# Altium integrated library Xilinx Virtex-E.IntLib: 288 symbols (part 6 of 73)
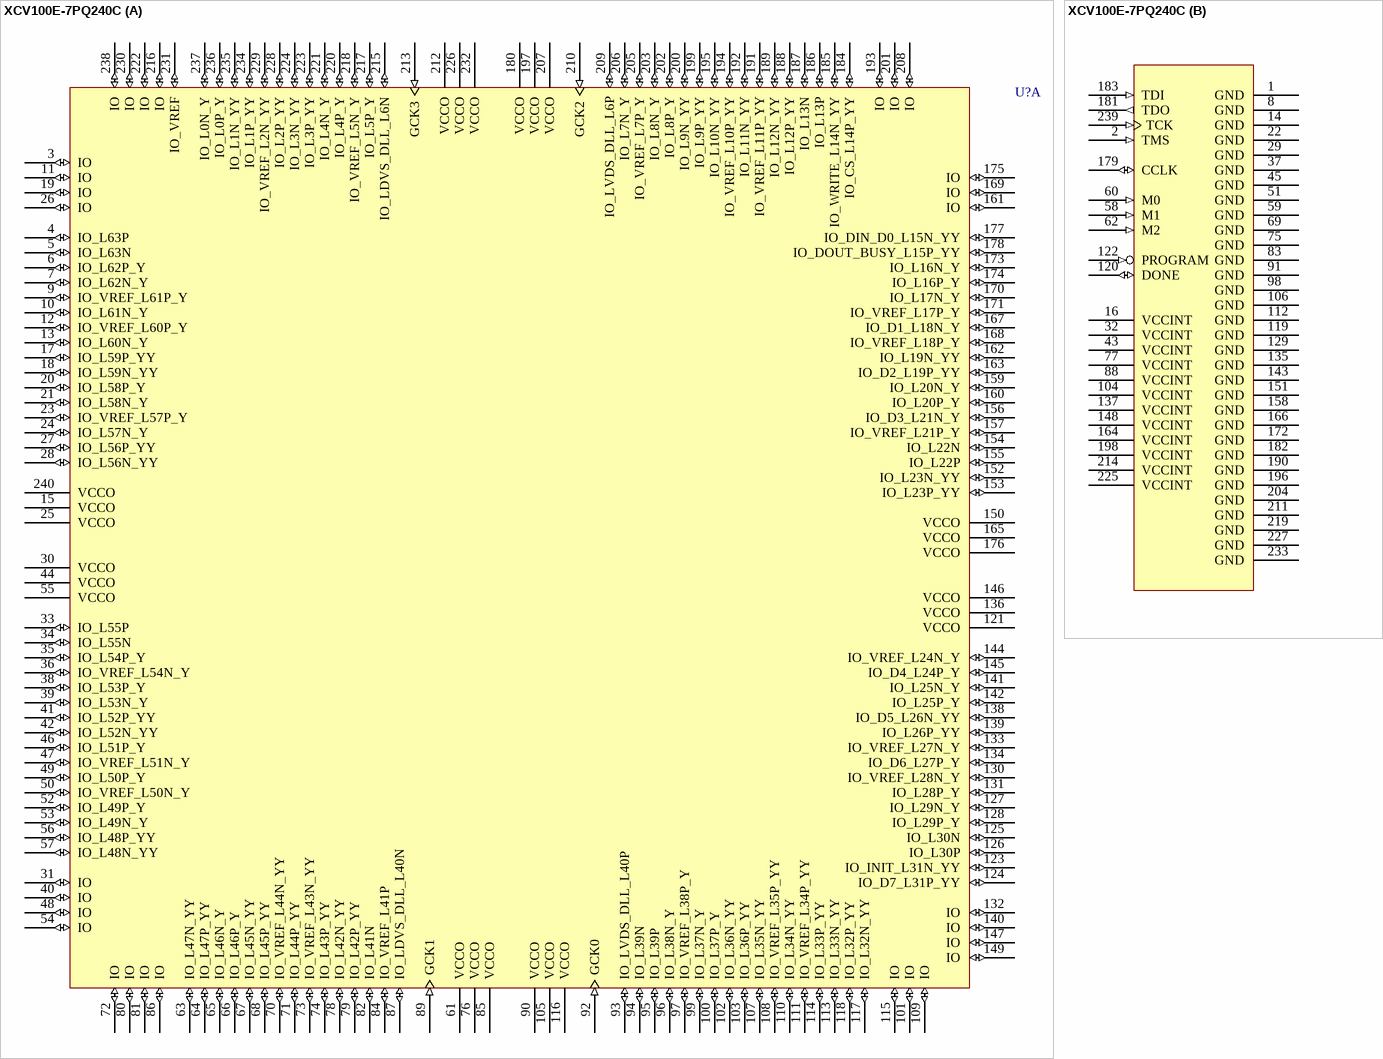
[diagram p402: symbol XCV100E-7PQ240C]

## XCV100E-7PQ240C
designator U?
Virtex-E 1.8V FPGA, 240-Pin PQFP, Commercial Grade; PackageDocument: ver1.1, Oct-2002; Published: 19-Sep-2001; LatestRevisionDate: 17-Jul-2002; LatestRevisionNote: Re-released for DXP Platform.; DatasheetDocument: Mar-2003; PackageReference: PQ240; Publisher: Altium Limited; Code_JEDEC: MO-143-GA
footprint PQ240 (240-Pin Plastic Quad Flat Pack (PQ240))
3D model XCV100E-PQ240 (240-Pin Plastic Quad Flat Pack (PQ240))
signal-integrity model XCV100E_PQ240 (Virtex-E)
part A pins: 3 IO (io), 4 IO_L63P (io), 5 IO_L63N (io), 6 IO_L62P_Y (io), 7 IO_L62N_Y (io), 9 IO_VREF_L61P_Y (io), 10 IO_L61N_Y (io), 11 IO (io), 12 IO_VREF_L60P_Y (io), 13 IO_L60N_Y (io), 15 VCCO (power), 17 IO_L59P_YY (io), 18 IO_L59N_YY (io), 19 IO (io), 20 IO_L58P_Y (io), 21 IO_L58N_Y (io), 23 IO_VREF_L57P_Y (io), 24 IO_L57N_Y (io), 25 VCCO (power), 26 IO (io), 27 IO_L56P_YY (io), 28 IO_L56N_YY (io), 30 VCCO (power), 31 IO (io), 33 IO_L55P (io), 34 IO_L55N (io), 35 IO_L54P_Y (io), 36 IO_VREF_L54N_Y (io), 38 IO_L53P_Y (io), 39 IO_L53N_Y (io), 40 IO (io), 41 IO_L52P_YY (io), 42 IO_L52N_YY (io), 44 VCCO (power), 46 IO_L51P_Y (io), 47 IO_VREF_L51N_Y (io), 48 IO (io), 49 IO_L50P_Y (io), 50 IO_VREF_L50N_Y (io), 52 IO_L49P_Y (io), 53 IO_L49N_Y (io), 54 IO (io), 55 VCCO (power), 56 IO_L48P_YY (io), 57 IO_L48N_YY (io), 61 VCCO (power), 63 IO_L47N_YY (io), 64 IO_L47P_YY (io), 65 IO_L46N_Y (io), 66 IO_L46P_Y (io), 67 IO_L45N_YY (io), 68 IO_L45P_YY (io), 70 IO_VREF_L44N_YY (io), 71 IO_L44P_YY (io), 72 IO (io), 73 IO_VREF_L43N_YY (io), 74 IO_L43P_YY (io), 76 VCCO (power), 78 IO_L42N_YY (io), 79 IO_L42P_YY (io), 80 IO (io), 81 IO (io), 82 IO_L41N (io), 84 IO_VREF_L41P (io), 85 VCCO (power), 86 IO (io), 87 IO_LDVS_DLL_L40N (io), 89 GCK1 (in), 90 VCCO (power), 92 GCK0 (in), 93 IO_LVDS_DLL_L40P (io), 94 IO_L39N (io), 95 IO_L39P (io), 96 IO_L38N_Y (io), 97 IO_VREF_L38P_Y (io), 99 IO_L37N_Y (io), 100 IO_L37P_Y (io), 101 IO (io), 102 IO_L36N_YY (io), 103 IO_L36P_YY (io), 105 VCCO (power), 107 IO_L35N_YY (io), 108 IO_VREF_L35P_YY (io), 109 IO (io), 110 IO_L34N_YY (io), 111 IO_VREF_L34P_YY (io), 113 IO_L33N_YY (io), 114 IO_L33P_YY (io), 115 IO (io), 116 VCCO (power), 117 IO_L32N_YY (io), 118 IO_L32P_YY (io), 121 VCCO (power), 123 IO_INIT_L31N_YY (io), 124 IO_D7_L31P_YY (io), 125 IO_L30N (io), 126 IO_L30P (io), 127 IO_L29N_Y (io), 128 IO_L29P_Y (io), 130 IO_VREF_L28N_Y (io), 131 IO_L28P_Y (io), 132 IO (io), 133 IO_VREF_L27N_Y (io), 134 IO_D6_L27P_Y (io), 136 VCCO (power), 138 IO_D5_L26N_YY (io), 139 IO_L26P_YY (io), 140 IO (io), 141 IO_L25N_Y (io), 142 IO_L25P_Y (io), 144 IO_VREF_L24N_Y (io), 145 IO_D4_L24P_Y (io), 146 VCCO (power), 147 IO (io), 149 IO (io), 150 VCCO (power), 152 IO_L23N_YY (io), 153 IO_L23P_YY (io), 154 IO_L22N (io), 155 IO_L22P (io), 156 IO_D3_L21N_Y (io), 157 IO_VREF_L21P_Y (io), 159 IO_L20N_Y (io), 160 IO_L20P_Y (io), 161 IO (io), 162 IO_L19N_YY (io), 163 IO_D2_L19P_YY (io), 165 VCCO (power), 167 IO_D1_L18N_Y (io), 168 IO_VREF_L18P_Y (io), 169 IO (io), 170 IO_L17N_Y (io), 171 IO_VREF_L17P_Y (io), 173 IO_L16N_Y (io), 174 IO_L16P_Y (io), 175 IO (io), 176 VCCO (power), 177 IO_DIN_D0_L15N_YY (io), 178 IO_DOUT_BUSY_L15P_YY (io), 180 VCCO (power), 184 IO_CS_L14P_YY (io), 185 IO_WRITE_L14N_YY (io), 186 IO_L13P (io), 187 IO_L13N (io), 188 IO_L12P_YY (io), 189 IO_L12N_YY (io), 191 IO_VREF_L11P_YY (io), 192 IO_L11N_YY (io), 193 IO (io), 194 IO_VREF_L10P_YY (io), 195 IO_L10N_YY (io), 197 VCCO (power), 199 IO_L9P_YY (io), 200 IO_L9N_YY (io), 201 IO (io), 202 IO_L8P_Y (io), 203 IO_L8N_Y (io), 205 IO_VREF_L7P_Y (io), 206 IO_L7N_Y (io), 207 VCCO (power), 208 IO (io), 209 IO_LVDS_DLL_L6P (io), 210 GCK2 (in), 212 VCCO (power), 213 GCK3 (in), 215 IO_LDVS_DLL_L6N (io), 216 IO (io), 217 IO_L5P_Y (io), 218 IO_VREF_L5N_Y (io), 220 IO_L4P_Y (io), 221 IO_L4N_Y (io), 222 IO (io), 223 IO_L3P_YY (io), 224 IO_L3N_YY (io), 226 VCCO (power), 228 IO_L2P_YY (io), 229 IO_VREF_L2N_YY (io), 230 IO (io), 231 IO_VREF (io), 232 VCCO (power), 234 IO_L1P_YY (io), 235 IO_L1N_YY (io), 236 IO_L0P_Y (io), 237 IO_L0N_Y (io), 238 IO (io), 240 VCCO (power)
part B pins: 1 GND (power), 2 TMS (in), 8 GND (power), 14 GND (power), 16 VCCINT (power), 22 GND (power), 29 GND (power), 32 VCCINT (power), 37 GND (power), 43 VCCINT (power), 45 GND (power), 51 GND (power), 58 M1 (in), 59 GND (power), 60 M0 (in), 62 M2 (in), 69 GND (power), 75 GND (power), 77 VCCINT (power), 83 GND (power), 88 VCCINT (power), 91 GND (power), 98 GND (power), 104 VCCINT (power), 106 GND (power), 112 GND (power), 119 GND (power), 120 DONE (io), 122 PROGRAM (in), 129 GND (power), 135 GND (power), 137 VCCINT (power), 143 GND (power), 148 VCCINT (power), 151 GND (power), 158 GND (power), 164 VCCINT (power), 166 GND (power), 172 GND (power), 179 CCLK (io), 181 TDO (out), 182 GND (power), 183 TDI (in), 190 GND (power), 196 GND (power), 198 VCCINT (power), 204 GND (power), 211 GND (power), 214 VCCINT (power), 219 GND (power), 225 VCCINT (power), 227 GND (power), 233 GND (power), 239 TCK (in)

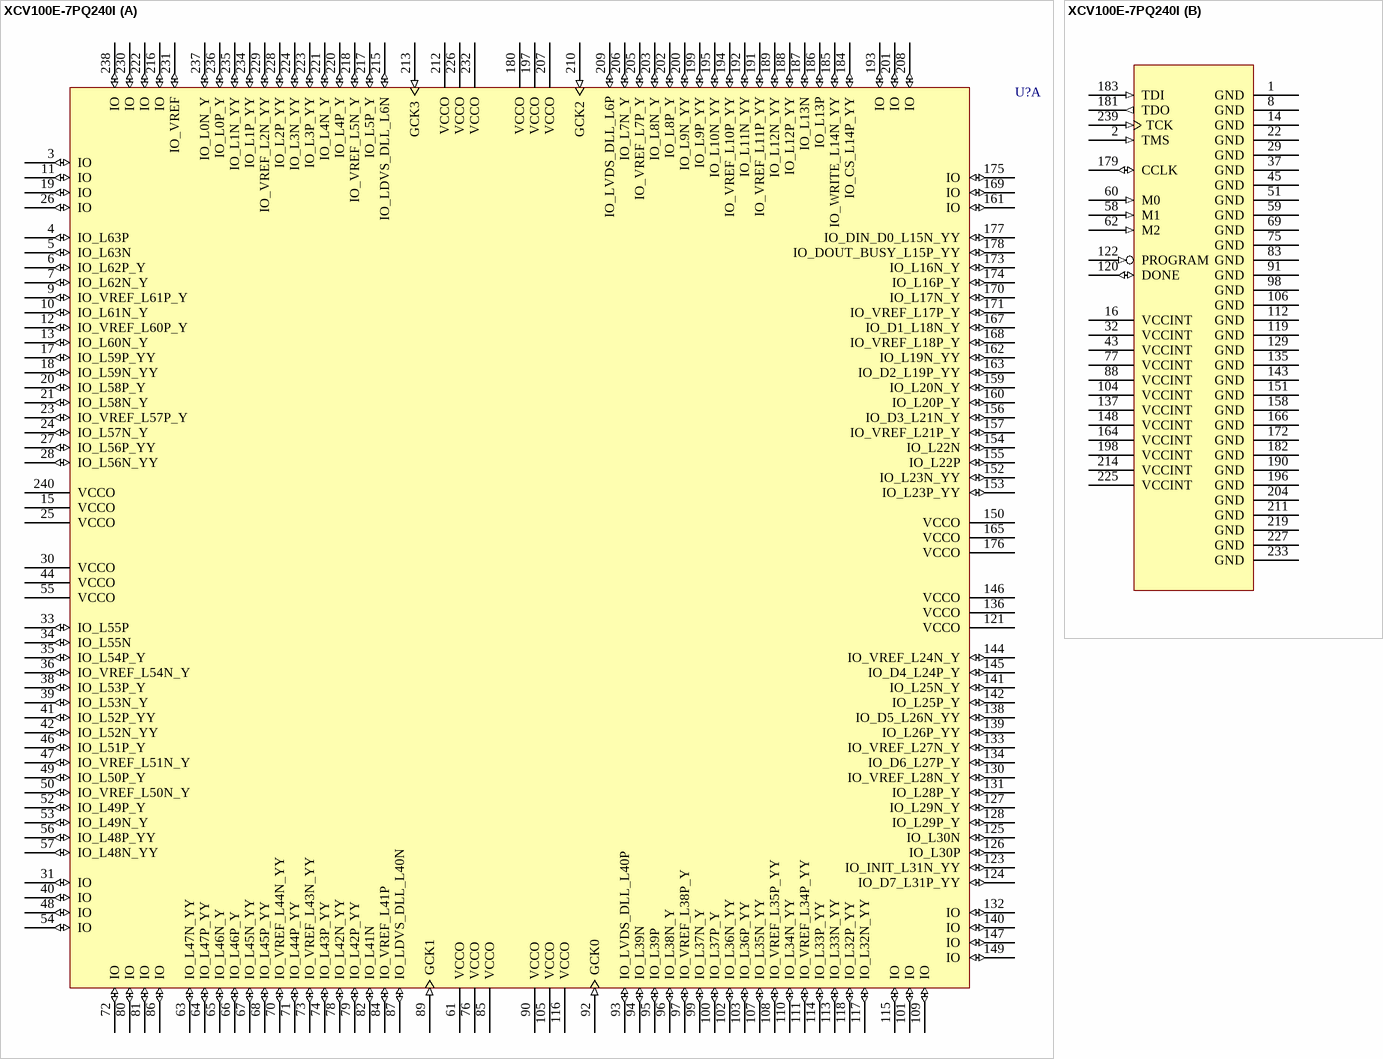
[diagram p26: symbol XCV100E-7PQ240I]

## XCV100E-7PQ240I
designator U?
Virtex-E 1.8V FPGA, 240-Pin PQFP, Industrial Grade; PackageDocument: ver1.1, Oct-2002; Published: 19-Sep-2001; LatestRevisionDate: 17-Jul-2002; LatestRevisionNote: Re-released for DXP Platform.; DatasheetDocument: Mar-2003; PackageReference: PQ240; Publisher: Altium Limited; Code_JEDEC: MO-143-GA
footprint PQ240 (240-Pin Plastic Quad Flat Pack (PQ240))
3D model XCV100E-PQ240 (240-Pin Plastic Quad Flat Pack (PQ240))
signal-integrity model XCV100E_PQ240 (Virtex-E)
part A pins: 3 IO (io), 4 IO_L63P (io), 5 IO_L63N (io), 6 IO_L62P_Y (io), 7 IO_L62N_Y (io), 9 IO_VREF_L61P_Y (io), 10 IO_L61N_Y (io), 11 IO (io), 12 IO_VREF_L60P_Y (io), 13 IO_L60N_Y (io), 15 VCCO (power), 17 IO_L59P_YY (io), 18 IO_L59N_YY (io), 19 IO (io), 20 IO_L58P_Y (io), 21 IO_L58N_Y (io), 23 IO_VREF_L57P_Y (io), 24 IO_L57N_Y (io), 25 VCCO (power), 26 IO (io), 27 IO_L56P_YY (io), 28 IO_L56N_YY (io), 30 VCCO (power), 31 IO (io), 33 IO_L55P (io), 34 IO_L55N (io), 35 IO_L54P_Y (io), 36 IO_VREF_L54N_Y (io), 38 IO_L53P_Y (io), 39 IO_L53N_Y (io), 40 IO (io), 41 IO_L52P_YY (io), 42 IO_L52N_YY (io), 44 VCCO (power), 46 IO_L51P_Y (io), 47 IO_VREF_L51N_Y (io), 48 IO (io), 49 IO_L50P_Y (io), 50 IO_VREF_L50N_Y (io), 52 IO_L49P_Y (io), 53 IO_L49N_Y (io), 54 IO (io), 55 VCCO (power), 56 IO_L48P_YY (io), 57 IO_L48N_YY (io), 61 VCCO (power), 63 IO_L47N_YY (io), 64 IO_L47P_YY (io), 65 IO_L46N_Y (io), 66 IO_L46P_Y (io), 67 IO_L45N_YY (io), 68 IO_L45P_YY (io), 70 IO_VREF_L44N_YY (io), 71 IO_L44P_YY (io), 72 IO (io), 73 IO_VREF_L43N_YY (io), 74 IO_L43P_YY (io), 76 VCCO (power), 78 IO_L42N_YY (io), 79 IO_L42P_YY (io), 80 IO (io), 81 IO (io), 82 IO_L41N (io), 84 IO_VREF_L41P (io), 85 VCCO (power), 86 IO (io), 87 IO_LDVS_DLL_L40N (io), 89 GCK1 (in), 90 VCCO (power), 92 GCK0 (in), 93 IO_LVDS_DLL_L40P (io), 94 IO_L39N (io), 95 IO_L39P (io), 96 IO_L38N_Y (io), 97 IO_VREF_L38P_Y (io), 99 IO_L37N_Y (io), 100 IO_L37P_Y (io), 101 IO (io), 102 IO_L36N_YY (io), 103 IO_L36P_YY (io), 105 VCCO (power), 107 IO_L35N_YY (io), 108 IO_VREF_L35P_YY (io), 109 IO (io), 110 IO_L34N_YY (io), 111 IO_VREF_L34P_YY (io), 113 IO_L33N_YY (io), 114 IO_L33P_YY (io), 115 IO (io), 116 VCCO (power), 117 IO_L32N_YY (io), 118 IO_L32P_YY (io), 121 VCCO (power), 123 IO_INIT_L31N_YY (io), 124 IO_D7_L31P_YY (io), 125 IO_L30N (io), 126 IO_L30P (io), 127 IO_L29N_Y (io), 128 IO_L29P_Y (io), 130 IO_VREF_L28N_Y (io), 131 IO_L28P_Y (io), 132 IO (io), 133 IO_VREF_L27N_Y (io), 134 IO_D6_L27P_Y (io), 136 VCCO (power), 138 IO_D5_L26N_YY (io), 139 IO_L26P_YY (io), 140 IO (io), 141 IO_L25N_Y (io), 142 IO_L25P_Y (io), 144 IO_VREF_L24N_Y (io), 145 IO_D4_L24P_Y (io), 146 VCCO (power), 147 IO (io), 149 IO (io), 150 VCCO (power), 152 IO_L23N_YY (io), 153 IO_L23P_YY (io), 154 IO_L22N (io), 155 IO_L22P (io), 156 IO_D3_L21N_Y (io), 157 IO_VREF_L21P_Y (io), 159 IO_L20N_Y (io), 160 IO_L20P_Y (io), 161 IO (io), 162 IO_L19N_YY (io), 163 IO_D2_L19P_YY (io), 165 VCCO (power), 167 IO_D1_L18N_Y (io), 168 IO_VREF_L18P_Y (io), 169 IO (io), 170 IO_L17N_Y (io), 171 IO_VREF_L17P_Y (io), 173 IO_L16N_Y (io), 174 IO_L16P_Y (io), 175 IO (io), 176 VCCO (power), 177 IO_DIN_D0_L15N_YY (io), 178 IO_DOUT_BUSY_L15P_YY (io), 180 VCCO (power), 184 IO_CS_L14P_YY (io), 185 IO_WRITE_L14N_YY (io), 186 IO_L13P (io), 187 IO_L13N (io), 188 IO_L12P_YY (io), 189 IO_L12N_YY (io), 191 IO_VREF_L11P_YY (io), 192 IO_L11N_YY (io), 193 IO (io), 194 IO_VREF_L10P_YY (io), 195 IO_L10N_YY (io), 197 VCCO (power), 199 IO_L9P_YY (io), 200 IO_L9N_YY (io), 201 IO (io), 202 IO_L8P_Y (io), 203 IO_L8N_Y (io), 205 IO_VREF_L7P_Y (io), 206 IO_L7N_Y (io), 207 VCCO (power), 208 IO (io), 209 IO_LVDS_DLL_L6P (io), 210 GCK2 (in), 212 VCCO (power), 213 GCK3 (in), 215 IO_LDVS_DLL_L6N (io), 216 IO (io), 217 IO_L5P_Y (io), 218 IO_VREF_L5N_Y (io), 220 IO_L4P_Y (io), 221 IO_L4N_Y (io), 222 IO (io), 223 IO_L3P_YY (io), 224 IO_L3N_YY (io), 226 VCCO (power), 228 IO_L2P_YY (io), 229 IO_VREF_L2N_YY (io), 230 IO (io), 231 IO_VREF (io), 232 VCCO (power), 234 IO_L1P_YY (io), 235 IO_L1N_YY (io), 236 IO_L0P_Y (io), 237 IO_L0N_Y (io), 238 IO (io), 240 VCCO (power)
part B pins: 1 GND (power), 2 TMS (in), 8 GND (power), 14 GND (power), 16 VCCINT (power), 22 GND (power), 29 GND (power), 32 VCCINT (power), 37 GND (power), 43 VCCINT (power), 45 GND (power), 51 GND (power), 58 M1 (in), 59 GND (power), 60 M0 (in), 62 M2 (in), 69 GND (power), 75 GND (power), 77 VCCINT (power), 83 GND (power), 88 VCCINT (power), 91 GND (power), 98 GND (power), 104 VCCINT (power), 106 GND (power), 112 GND (power), 119 GND (power), 120 DONE (io), 122 PROGRAM (in), 129 GND (power), 135 GND (power), 137 VCCINT (power), 143 GND (power), 148 VCCINT (power), 151 GND (power), 158 GND (power), 164 VCCINT (power), 166 GND (power), 172 GND (power), 179 CCLK (io), 181 TDO (out), 182 GND (power), 183 TDI (in), 190 GND (power), 196 GND (power), 198 VCCINT (power), 204 GND (power), 211 GND (power), 214 VCCINT (power), 219 GND (power), 225 VCCINT (power), 227 GND (power), 233 GND (power), 239 TCK (in)

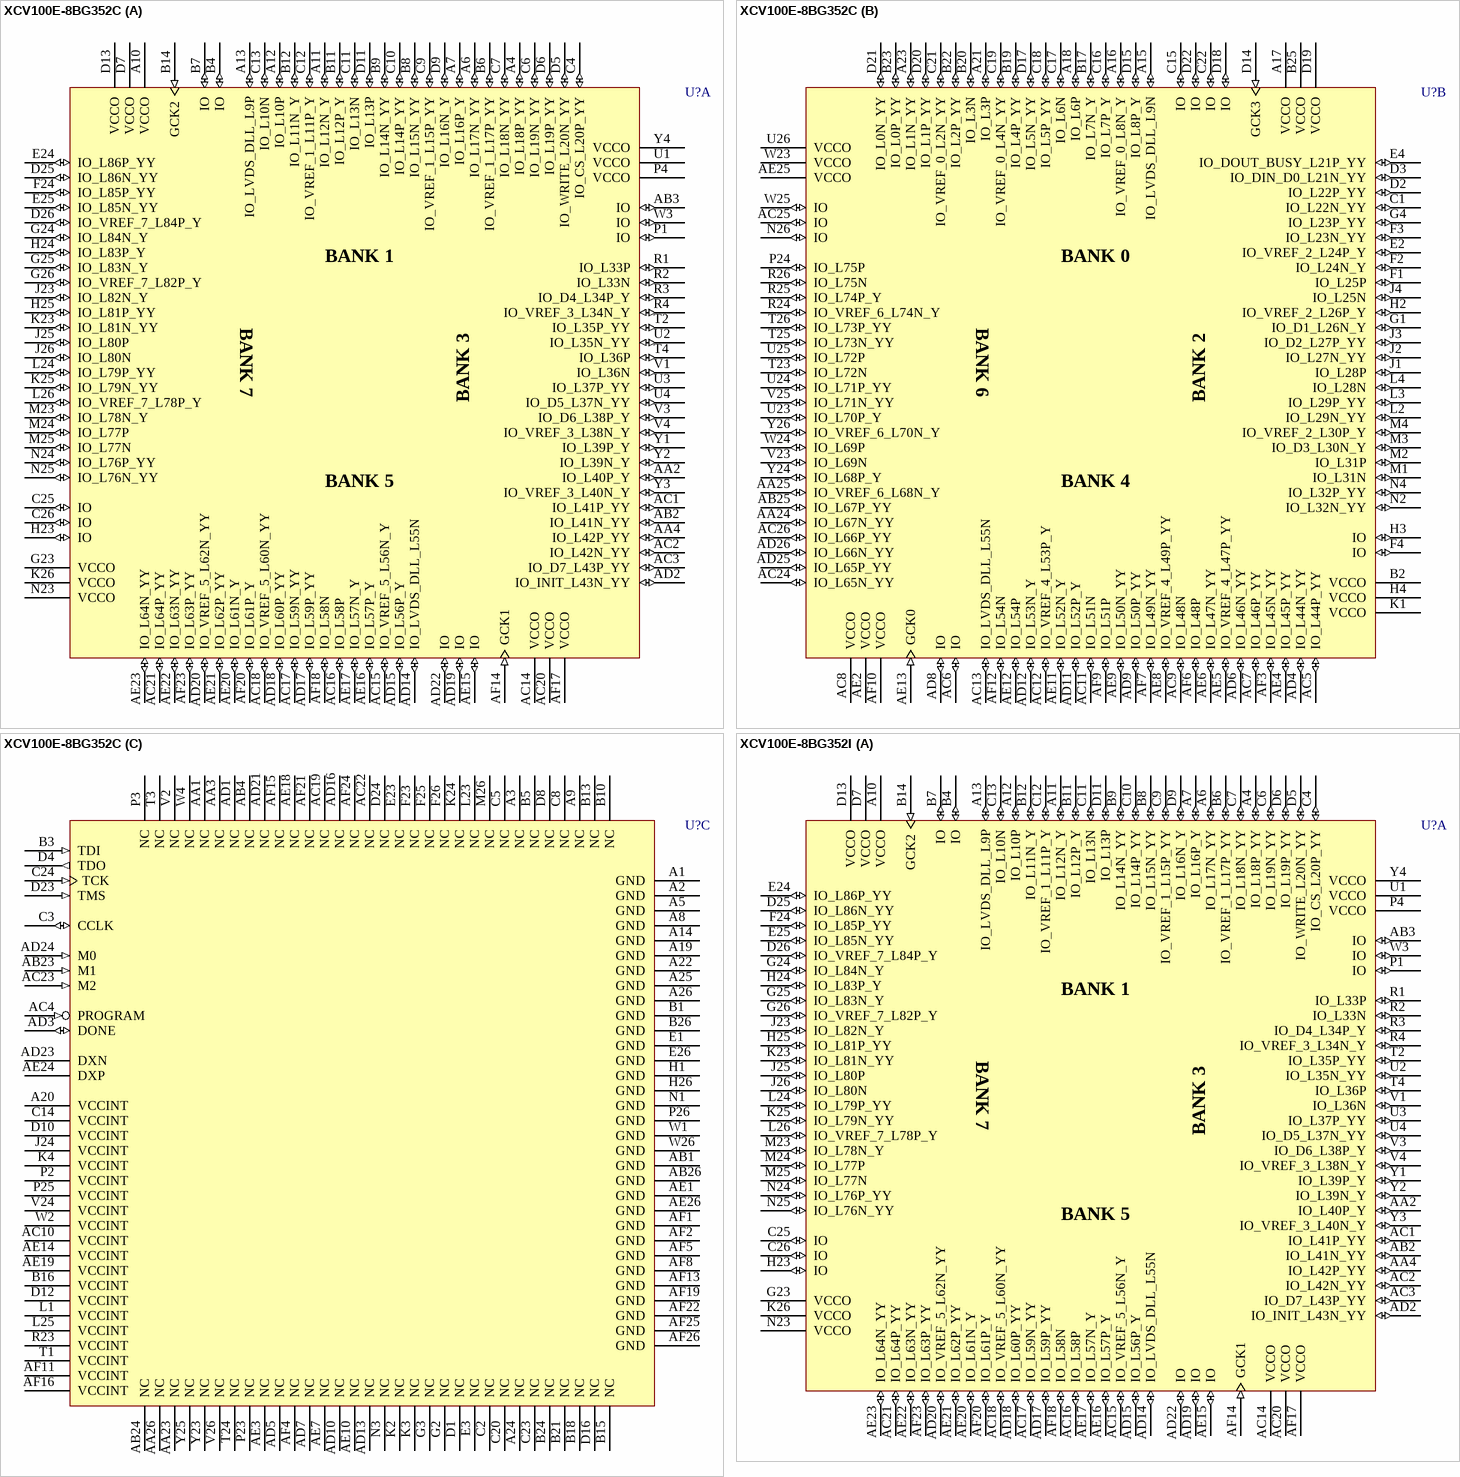
[diagram p27: symbols XCV100E-8BG352C to XCV100E-8BG352I]

## XCV100E-8BG352C
designator U?
Virtex-E 1.8V FPGA, 352-Ball BGA, Commercial Grade; PackageDocument: ver1.1, Apr-2001; Note: Solder pads are defined by the copper, i.e. non-soldermask defined (NSMD); Published: 19-Sep-2001; LatestRevisionDate: 17-Jul-2002; LatestRevisionNote: Re-released for DXP Platform.; DatasheetDocument: Mar-2003; PackageReference: BG352; Publisher: Altium Limited; Code_JEDEC: MO-192-BAR-2
footprint BG352 (352-Ball Metal Ball Grid Array (BG352))
3D model XCV100E-BG352 (352-Ball Metal Ball Grid Array (BG352))
signal-integrity model XCV100E_BG352 (Virtex-E)
part A pins: A4 IO_L18P_YY (io), A6 IO_L17N_YY (io), A7 IO_L16P_Y (io), A10 VCCO (power), A11 IO_L12N_Y (io), A12 IO_L10P (io), A13 IO_LVDS_DLL_L9P (io), AA2 IO_L40P_Y (io), AA4 IO_L42P_YY (io), AB2 IO_L41N_YY (io), AB3 IO (io), AC1 IO_L41P_YY (io), AC2 IO_L42N_YY (io), AC3 IO_D7_L43P_YY (io), AC14 VCCO (power), AC15 IO_VREF_5_L56N_Y (io), AC16 IO_L58P (io), AC17 IO_L59N_YY (io), AC18 IO_VREF_5_L60N_YY (io), AC20 VCCO (power), AC21 IO_L64P_YY (io), AD2 IO_INIT_L43N_YY (io), AD14 IO_LVDS_DLL_L55N (io), AD15 IO_L56P_Y (io), AD17 IO_L59P_YY (io), AD18 IO_L60P_YY (io), AD19 IO (io), AD20 IO_VREF_5_L62N_YY (io), AD22 IO (io), AE15 IO (io), AE16 IO_L57P_Y (io), AE17 IO_L57N_Y (io), AE20 IO_L61N_Y (io), AE21 IO_L62P_YY (io), AE22 IO_L63N_YY (io), AE23 IO_L64N_YY (io), AF14 GCK1 (in), AF17 VCCO (power), AF18 IO_L58N (io), AF20 IO_L61P_Y (io), AF23 IO_L63P_YY (io), B4 IO (io), B6 IO_VREF_1_L17P_YY (io), B7 IO (io), B8 IO_L15N_YY (io), B9 IO_L14N_YY (io), B11 IO_L12P_Y (io), B12 IO_L11N_Y (io), B14 GCK2 (in), C4 IO_CS_L20P_YY (io), C6 IO_L19N_YY (io), C7 IO_L18N_YY (io), C9 IO_VREF_1_L15P_YY (io), C10 IO_L14P_YY (io), C11 IO_L13N (io), C12 IO_VREF_1_L11P_Y (io), C13 IO_L10N (io), C25 IO (io), C26 IO (io), D5 IO_WRITE_L20N_YY (io), D6 IO_L19P_YY (io), D7 VCCO (power), D9 IO_L16N_Y (io), D11 IO_L13P (io), D13 VCCO (power), D25 IO_L86N_YY (io), D26 IO_VREF_7_L84P_Y (io), E24 IO_L86P_YY (io), E25 IO_L85N_YY (io), F24 IO_L85P_YY (io), G23 VCCO (power), G24 IO_L84N_Y (io), G25 IO_L83N_Y (io), G26 IO_VREF_7_L82P_Y (io), H23 IO (io), H24 IO_L83P_Y (io), H25 IO_L81P_YY (io), J23 IO_L82N_Y (io), J25 IO_L80P (io), J26 IO_L80N (io), K23 IO_L81N_YY (io), K25 IO_L79N_YY (io), K26 VCCO (power), L24 IO_L79P_YY (io), L26 IO_VREF_7_L78P_Y (io), M23 IO_L78N_Y (io), M24 IO_L77P (io), M25 IO_L77N (io), N23 VCCO (power), N24 IO_L76P_YY (io), N25 IO_L76N_YY (io), P1 IO (io), P4 VCCO (power), R1 IO_L33P (io), R2 IO_L33N (io), R3 IO_D4_L34P_Y (io), R4 IO_VREF_3_L34N_Y (io), T2 IO_L35P_YY (io), T4 IO_L36P (io), U1 VCCO (power), U2 IO_L35N_YY (io), U3 IO_L37P_YY (io), U4 IO_D5_L37N_YY (io), V1 IO_L36N (io), V3 IO_D6_L38P_Y (io), V4 IO_VREF_3_L38N_Y (io), W3 IO (io), Y1 IO_L39P_Y (io), Y2 IO_L39N_Y (io), Y3 IO_VREF_3_L40N_Y (io), Y4 VCCO (power)
part B pins: A15 IO_LVDS_DLL_L9N (io), A16 IO_VREF_0_L8N_Y (io), A17 VCCO (power), A18 IO_L6P (io), A21 IO_L3P (io), A23 IO_L1N_YY (io), AA24 IO_L67N_YY (io), AA25 IO_VREF_6_L68N_Y (io), AB25 IO_L67P_YY (io), AC5 IO_L44P_YY (io), AC6 IO (io), AC7 IO_L46P_YY (io), AC8 VCCO (power), AC9 IO_L48N (io), AC11 IO_L51N (io), AC12 IO_VREF_4_L53P_Y (io), AC13 IO_LVDS_DLL_L55N (io), AC24 IO_L65N_YY (io), AC25 IO (io), AC26 IO_L66P_YY (io), AD4 IO_L44N_YY (io), AD6 IO_L46N_YY (io), AD8 IO (io), AD9 IO_L50P_YY (io), AD11 IO_L52P_Y (io), AD12 IO_L53N_Y (io), AD25 IO_L65P_YY (io), AD26 IO_L66N_YY (io), AE2 VCCO (power), AE4 IO_L45P_YY (io), AE5 IO_VREF_4_L47P_YY (io), AE6 IO_L47N_YY (io), AE8 IO_VREF_4_L49P_YY (io), AE9 IO_L50N_YY (io), AE11 IO_L52N_Y (io), AE12 IO_L54P (io), AE13 GCK0 (in), AE25 VCCO (power), AF3 IO_L45N_YY (io), AF6 IO_L48P (io), AF7 IO_L49N_YY (io), AF9 IO_L51P (io), AF10 VCCO (power), AF12 IO_L54N (io), B2 VCCO (power), B17 IO_L7N_Y (io), B19 IO_L4P_YY (io), B20 IO_L3N (io), B22 IO_L2P_YY (io), B23 IO_L0P_YY (io), B25 VCCO (power), C1 IO_L22N_YY (io), C15 IO (io), C16 IO_L7P_Y (io), C17 IO_L6N (io), C18 IO_L5P_YY (io), C19 IO_VREF_0_L4N_YY (io), C21 IO_VREF_0_L2N_YY (io), C22 IO (io), D2 IO_L22P_YY (io), D3 IO_DIN_D0_L21N_YY (io), D14 GCK3 (in), D15 IO_L8P_Y (io), D17 IO_L5N_YY (io), D18 IO (io), D19 VCCO (power), D20 IO_L1P_YY (io), D21 IO_L0N_YY (io), D22 IO (io), E2 IO_VREF_2_L24P_Y (io), E4 IO_DOUT_BUSY_L21P_YY (io), F1 IO_L25P (io), F2 IO_L24N_Y (io), F3 IO_L23N_YY (io), F4 IO (io), G1 IO_D1_L26N_Y (io), G4 IO_L23P_YY (io), H2 IO_VREF_2_L26P_Y (io), H3 IO (io), H4 VCCO (power), J1 IO_L28P (io), J2 IO_L27N_YY (io), J3 IO_D2_L27P_YY (io), J4 IO_L25N (io), K1 VCCO (power), L2 IO_L29N_YY (io), L3 IO_L29P_YY (io), L4 IO_L28N (io), M1 IO_L31N (io), M2 IO_L31P (io), M3 IO_D3_L30N_Y (io), M4 IO_VREF_2_L30P_Y (io), N2 IO_L32N_YY (io), N4 IO_L32P_YY (io), N26 IO (io), P24 IO_L75P (io), R24 IO_VREF_6_L74N_Y (io), R25 IO_L74P_Y (io), R26 IO_L75N (io), T23 IO_L72N (io), T25 IO_L73N_YY (io), T26 IO_L73P_YY (io), U23 IO_L70P_Y (io), U24 IO_L71P_YY (io), U25 IO_L72P (io), U26 VCCO (power), V23 IO_L69N (io), V25 IO_L71N_YY (io), W23 VCCO (power), W24 IO_L69P (io), W25 IO (io), Y24 IO_L68P_Y (io), Y26 IO_VREF_6_L70N_Y (io)
part C pins: A1 GND (power), A2 GND (power), A3 NC, A5 GND (power), A8 GND (power), A9 NC, A14 GND (power), A19 GND (power), A20 VCCINT (power), A22 GND (power), A24 NC, A25 GND (power), A26 GND (power), AA1 NC, AA3 NC, AA23 NC, AA26 NC, AB1 GND (power), AB4 NC, AB23 M1 (in), AB24 NC, AB26 GND (power), AC4 PROGRAM (in), AC10 VCCINT (power), AC19 NC, AC22 NC, AC23 M2 (in), AD1 NC, AD3 DONE (io), AD5 NC, AD7 NC, AD10 NC, AD13 NC, AD16 NC, AD21 NC, AD23 DXN, AD24 M0 (in), AE1 GND (power), AE3 NC, AE7 NC, AE10 NC, AE14 VCCINT (power), AE18 NC, AE19 VCCINT (power), AE24 DXP, AE26 GND (power), AF1 GND (power), AF2 GND (power), AF4 NC, AF5 GND (power), AF8 GND (power), AF11 VCCINT (power), AF13 GND (power), AF15 NC, AF16 VCCINT (power), AF19 GND (power), AF21 NC, AF22 GND (power), AF24 NC, AF25 GND (power), AF26 GND (power), B1 GND (power), B3 TDI (in), B5 NC, B10 NC, B13 NC, B15 NC, B16 VCCINT (power), B18 NC, B21 NC, B24 NC, B26 GND (power), C2 NC, C3 CCLK (io), C5 NC, C8 NC, C14 VCCINT (power), C20 NC, C23 NC, C24 TCK (in), D1 NC, D4 TDO (out), D8 NC, D10 VCCINT (power), D12 VCCINT (power), D16 NC, D23 TMS (in), D24 NC, E1 GND (power), E3 NC, E23 NC, E26 GND (power), F23 NC, F25 NC, F26 NC, G2 NC, G3 NC, H1 GND (power), H26 GND (power), J24 VCCINT (power), K2 NC, K3 NC, K4 VCCINT (power), K24 NC, L1 VCCINT (power), L23 NC, L25 VCCINT (power), M26 NC, N1 GND (power), N3 NC, P2 VCCINT (power), P3 NC, P23 NC, P25 VCCINT (power), P26 GND (power), R23 VCCINT (power), T1 VCCINT (power), T3 NC, T24 NC, V2 NC, V24 VCCINT (power), V26 NC, W1 GND (power), W2 VCCINT (power), W4 NC, W26 GND (power), Y23 NC, Y25 NC
part A text: BANK 1; BANK 7; BANK 3; BANK 5
part B text: BANK 0; BANK 6; BANK 2; BANK 4

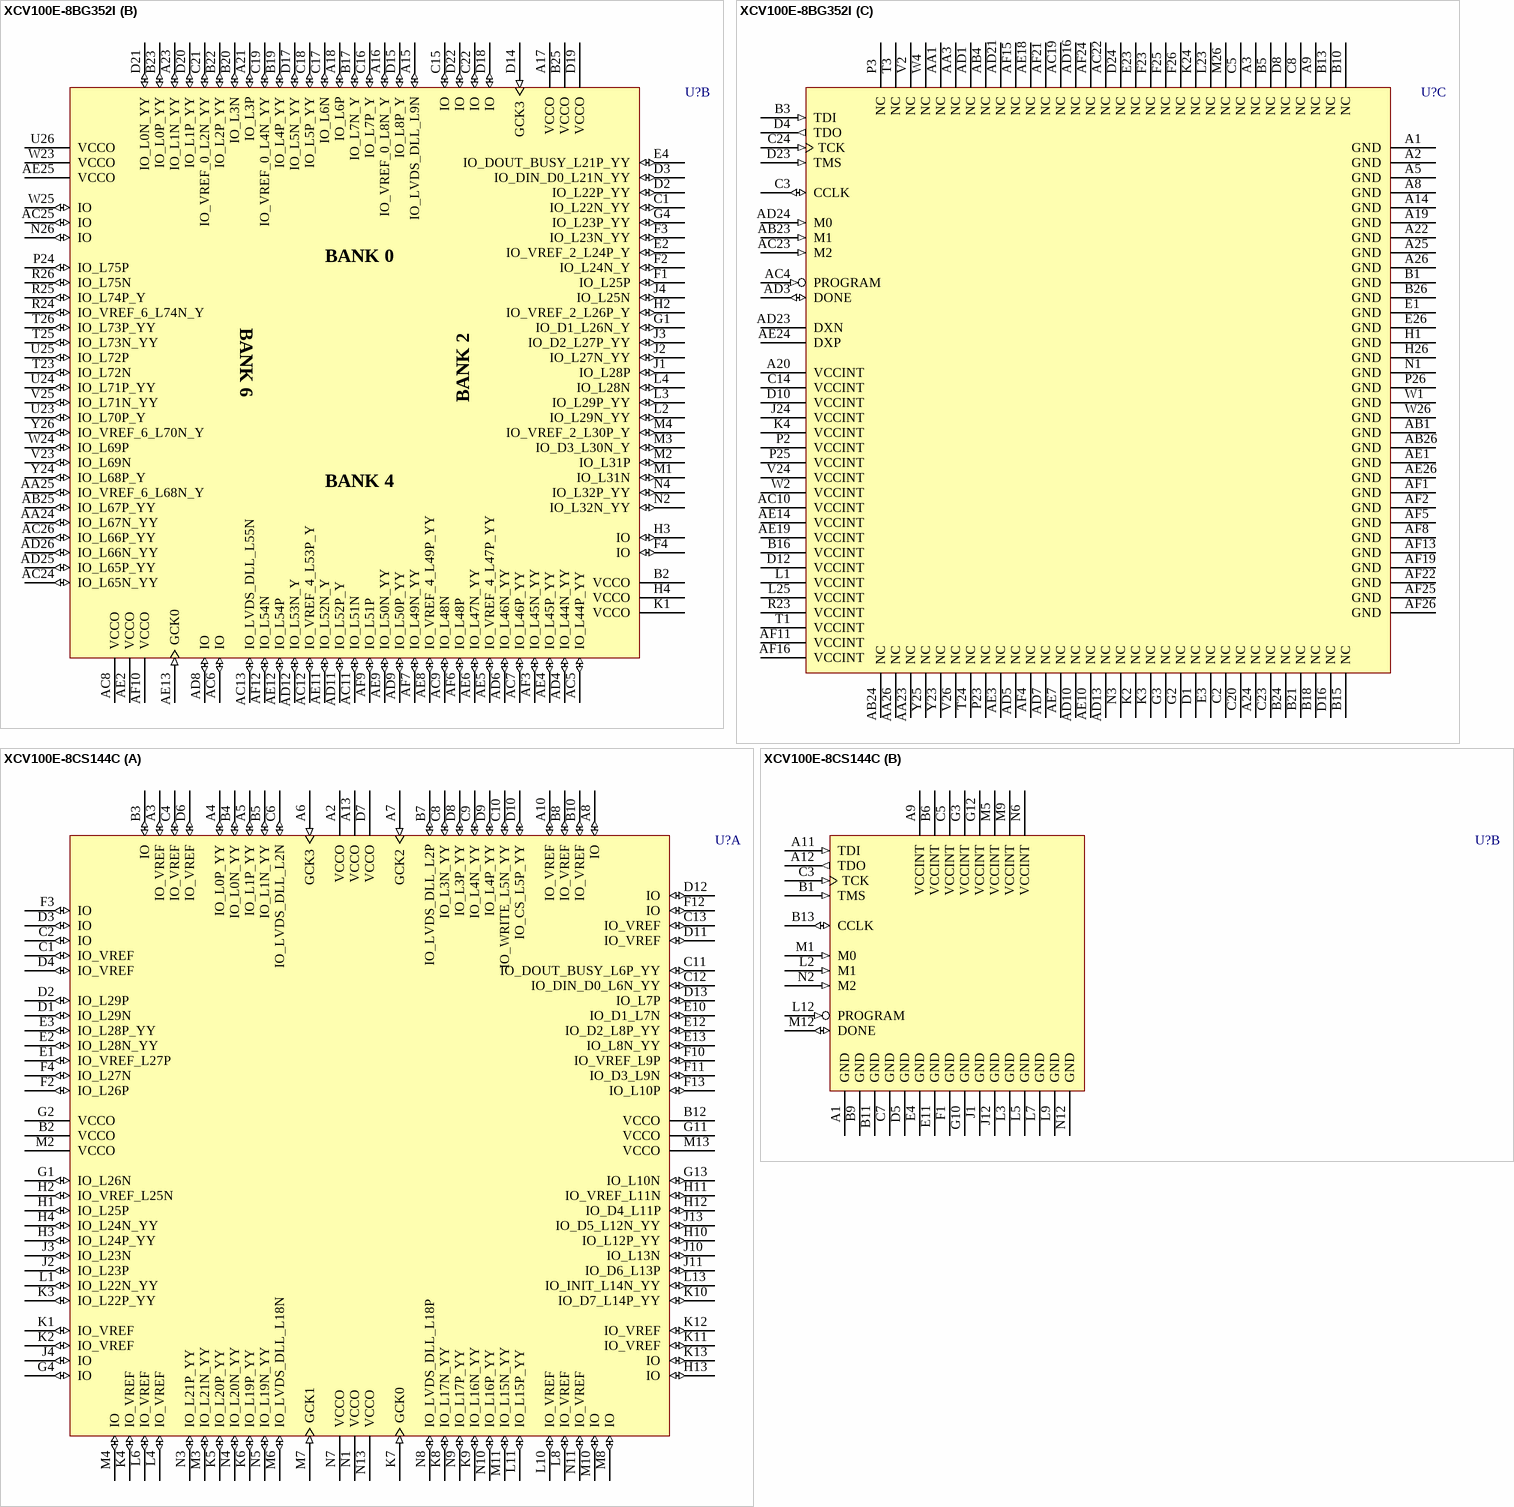
[diagram p28: symbols XCV100E-8BG352I to XCV100E-8CS144C]

## XCV100E-8BG352I
designator U?
Virtex-E 1.8V FPGA, 352-Ball BGA, Industrial Grade; PackageDocument: ver1.1, Apr-2001; Note: Solder pads are defined by the copper, i.e. non-soldermask defined (NSMD); Published: 19-Sep-2001; LatestRevisionDate: 17-Jul-2002; LatestRevisionNote: Re-released for DXP Platform.; DatasheetDocument: Mar-2003; PackageReference: BG352; Publisher: Altium Limited; Code_JEDEC: MO-192-BAR-2
footprint BG352 (352-Ball Metal Ball Grid Array (BG352))
3D model XCV100E-BG352 (352-Ball Metal Ball Grid Array (BG352))
signal-integrity model XCV100E_BG352 (Virtex-E)
part A pins: A4 IO_L18P_YY (io), A6 IO_L17N_YY (io), A7 IO_L16P_Y (io), A10 VCCO (power), A11 IO_L12N_Y (io), A12 IO_L10P (io), A13 IO_LVDS_DLL_L9P (io), AA2 IO_L40P_Y (io), AA4 IO_L42P_YY (io), AB2 IO_L41N_YY (io), AB3 IO (io), AC1 IO_L41P_YY (io), AC2 IO_L42N_YY (io), AC3 IO_D7_L43P_YY (io), AC14 VCCO (power), AC15 IO_VREF_5_L56N_Y (io), AC16 IO_L58P (io), AC17 IO_L59N_YY (io), AC18 IO_VREF_5_L60N_YY (io), AC20 VCCO (power), AC21 IO_L64P_YY (io), AD2 IO_INIT_L43N_YY (io), AD14 IO_LVDS_DLL_L55N (io), AD15 IO_L56P_Y (io), AD17 IO_L59P_YY (io), AD18 IO_L60P_YY (io), AD19 IO (io), AD20 IO_VREF_5_L62N_YY (io), AD22 IO (io), AE15 IO (io), AE16 IO_L57P_Y (io), AE17 IO_L57N_Y (io), AE20 IO_L61N_Y (io), AE21 IO_L62P_YY (io), AE22 IO_L63N_YY (io), AE23 IO_L64N_YY (io), AF14 GCK1 (in), AF17 VCCO (power), AF18 IO_L58N (io), AF20 IO_L61P_Y (io), AF23 IO_L63P_YY (io), B4 IO (io), B6 IO_VREF_1_L17P_YY (io), B7 IO (io), B8 IO_L15N_YY (io), B9 IO_L14N_YY (io), B11 IO_L12P_Y (io), B12 IO_L11N_Y (io), B14 GCK2 (in), C4 IO_CS_L20P_YY (io), C6 IO_L19N_YY (io), C7 IO_L18N_YY (io), C9 IO_VREF_1_L15P_YY (io), C10 IO_L14P_YY (io), C11 IO_L13N (io), C12 IO_VREF_1_L11P_Y (io), C13 IO_L10N (io), C25 IO (io), C26 IO (io), D5 IO_WRITE_L20N_YY (io), D6 IO_L19P_YY (io), D7 VCCO (power), D9 IO_L16N_Y (io), D11 IO_L13P (io), D13 VCCO (power), D25 IO_L86N_YY (io), D26 IO_VREF_7_L84P_Y (io), E24 IO_L86P_YY (io), E25 IO_L85N_YY (io), F24 IO_L85P_YY (io), G23 VCCO (power), G24 IO_L84N_Y (io), G25 IO_L83N_Y (io), G26 IO_VREF_7_L82P_Y (io), H23 IO (io), H24 IO_L83P_Y (io), H25 IO_L81P_YY (io), J23 IO_L82N_Y (io), J25 IO_L80P (io), J26 IO_L80N (io), K23 IO_L81N_YY (io), K25 IO_L79N_YY (io), K26 VCCO (power), L24 IO_L79P_YY (io), L26 IO_VREF_7_L78P_Y (io), M23 IO_L78N_Y (io), M24 IO_L77P (io), M25 IO_L77N (io), N23 VCCO (power), N24 IO_L76P_YY (io), N25 IO_L76N_YY (io), P1 IO (io), P4 VCCO (power), R1 IO_L33P (io), R2 IO_L33N (io), R3 IO_D4_L34P_Y (io), R4 IO_VREF_3_L34N_Y (io), T2 IO_L35P_YY (io), T4 IO_L36P (io), U1 VCCO (power), U2 IO_L35N_YY (io), U3 IO_L37P_YY (io), U4 IO_D5_L37N_YY (io), V1 IO_L36N (io), V3 IO_D6_L38P_Y (io), V4 IO_VREF_3_L38N_Y (io), W3 IO (io), Y1 IO_L39P_Y (io), Y2 IO_L39N_Y (io), Y3 IO_VREF_3_L40N_Y (io), Y4 VCCO (power)
part B pins: A15 IO_LVDS_DLL_L9N (io), A16 IO_VREF_0_L8N_Y (io), A17 VCCO (power), A18 IO_L6P (io), A21 IO_L3P (io), A23 IO_L1N_YY (io), AA24 IO_L67N_YY (io), AA25 IO_VREF_6_L68N_Y (io), AB25 IO_L67P_YY (io), AC5 IO_L44P_YY (io), AC6 IO (io), AC7 IO_L46P_YY (io), AC8 VCCO (power), AC9 IO_L48N (io), AC11 IO_L51N (io), AC12 IO_VREF_4_L53P_Y (io), AC13 IO_LVDS_DLL_L55N (io), AC24 IO_L65N_YY (io), AC25 IO (io), AC26 IO_L66P_YY (io), AD4 IO_L44N_YY (io), AD6 IO_L46N_YY (io), AD8 IO (io), AD9 IO_L50P_YY (io), AD11 IO_L52P_Y (io), AD12 IO_L53N_Y (io), AD25 IO_L65P_YY (io), AD26 IO_L66N_YY (io), AE2 VCCO (power), AE4 IO_L45P_YY (io), AE5 IO_VREF_4_L47P_YY (io), AE6 IO_L47N_YY (io), AE8 IO_VREF_4_L49P_YY (io), AE9 IO_L50N_YY (io), AE11 IO_L52N_Y (io), AE12 IO_L54P (io), AE13 GCK0 (in), AE25 VCCO (power), AF3 IO_L45N_YY (io), AF6 IO_L48P (io), AF7 IO_L49N_YY (io), AF9 IO_L51P (io), AF10 VCCO (power), AF12 IO_L54N (io), B2 VCCO (power), B17 IO_L7N_Y (io), B19 IO_L4P_YY (io), B20 IO_L3N (io), B22 IO_L2P_YY (io), B23 IO_L0P_YY (io), B25 VCCO (power), C1 IO_L22N_YY (io), C15 IO (io), C16 IO_L7P_Y (io), C17 IO_L6N (io), C18 IO_L5P_YY (io), C19 IO_VREF_0_L4N_YY (io), C21 IO_VREF_0_L2N_YY (io), C22 IO (io), D2 IO_L22P_YY (io), D3 IO_DIN_D0_L21N_YY (io), D14 GCK3 (in), D15 IO_L8P_Y (io), D17 IO_L5N_YY (io), D18 IO (io), D19 VCCO (power), D20 IO_L1P_YY (io), D21 IO_L0N_YY (io), D22 IO (io), E2 IO_VREF_2_L24P_Y (io), E4 IO_DOUT_BUSY_L21P_YY (io), F1 IO_L25P (io), F2 IO_L24N_Y (io), F3 IO_L23N_YY (io), F4 IO (io), G1 IO_D1_L26N_Y (io), G4 IO_L23P_YY (io), H2 IO_VREF_2_L26P_Y (io), H3 IO (io), H4 VCCO (power), J1 IO_L28P (io), J2 IO_L27N_YY (io), J3 IO_D2_L27P_YY (io), J4 IO_L25N (io), K1 VCCO (power), L2 IO_L29N_YY (io), L3 IO_L29P_YY (io), L4 IO_L28N (io), M1 IO_L31N (io), M2 IO_L31P (io), M3 IO_D3_L30N_Y (io), M4 IO_VREF_2_L30P_Y (io), N2 IO_L32N_YY (io), N4 IO_L32P_YY (io), N26 IO (io), P24 IO_L75P (io), R24 IO_VREF_6_L74N_Y (io), R25 IO_L74P_Y (io), R26 IO_L75N (io), T23 IO_L72N (io), T25 IO_L73N_YY (io), T26 IO_L73P_YY (io), U23 IO_L70P_Y (io), U24 IO_L71P_YY (io), U25 IO_L72P (io), U26 VCCO (power), V23 IO_L69N (io), V25 IO_L71N_YY (io), W23 VCCO (power), W24 IO_L69P (io), W25 IO (io), Y24 IO_L68P_Y (io), Y26 IO_VREF_6_L70N_Y (io)
part C pins: A1 GND (power), A2 GND (power), A3 NC, A5 GND (power), A8 GND (power), A9 NC, A14 GND (power), A19 GND (power), A20 VCCINT (power), A22 GND (power), A24 NC, A25 GND (power), A26 GND (power), AA1 NC, AA3 NC, AA23 NC, AA26 NC, AB1 GND (power), AB4 NC, AB23 M1 (in), AB24 NC, AB26 GND (power), AC4 PROGRAM (in), AC10 VCCINT (power), AC19 NC, AC22 NC, AC23 M2 (in), AD1 NC, AD3 DONE (io), AD5 NC, AD7 NC, AD10 NC, AD13 NC, AD16 NC, AD21 NC, AD23 DXN, AD24 M0 (in), AE1 GND (power), AE3 NC, AE7 NC, AE10 NC, AE14 VCCINT (power), AE18 NC, AE19 VCCINT (power), AE24 DXP, AE26 GND (power), AF1 GND (power), AF2 GND (power), AF4 NC, AF5 GND (power), AF8 GND (power), AF11 VCCINT (power), AF13 GND (power), AF15 NC, AF16 VCCINT (power), AF19 GND (power), AF21 NC, AF22 GND (power), AF24 NC, AF25 GND (power), AF26 GND (power), B1 GND (power), B3 TDI (in), B5 NC, B10 NC, B13 NC, B15 NC, B16 VCCINT (power), B18 NC, B21 NC, B24 NC, B26 GND (power), C2 NC, C3 CCLK (io), C5 NC, C8 NC, C14 VCCINT (power), C20 NC, C23 NC, C24 TCK (in), D1 NC, D4 TDO (out), D8 NC, D10 VCCINT (power), D12 VCCINT (power), D16 NC, D23 TMS (in), D24 NC, E1 GND (power), E3 NC, E23 NC, E26 GND (power), F23 NC, F25 NC, F26 NC, G2 NC, G3 NC, H1 GND (power), H26 GND (power), J24 VCCINT (power), K2 NC, K3 NC, K4 VCCINT (power), K24 NC, L1 VCCINT (power), L23 NC, L25 VCCINT (power), M26 NC, N1 GND (power), N3 NC, P2 VCCINT (power), P3 NC, P23 NC, P25 VCCINT (power), P26 GND (power), R23 VCCINT (power), T1 VCCINT (power), T3 NC, T24 NC, V2 NC, V24 VCCINT (power), V26 NC, W1 GND (power), W2 VCCINT (power), W4 NC, W26 GND (power), Y23 NC, Y25 NC
part A text: BANK 1; BANK 7; BANK 3; BANK 5
part B text: BANK 0; BANK 6; BANK 2; BANK 4

## XCV100E-8CS144C
designator U?
Virtex-E 1.8V FPGA, 144-Ball CSBGA, Commercial Grade; PackageDocument: ver1.0, Jun-2000; Note: Solder pads are defined by the copper, i.e. non-soldermask defined (NSMD); Published: 19-Sep-2001; LatestRevisionDate: 17-Sep-2003; LatestRevisionNote: PCB Footprint dimensions updated; DatasheetDocument: Mar-2003; PackageReference: CS144; Publisher: Altium Limited
footprint CS144 (144-Ball Chip Scale Ball Grid Array (CS144))
3D model XCV100E-CS144 (144-Ball Chip Scale Ball Grid Array (CS144))
signal-integrity model XCV100E_CS144 (Virtex-E)
part A pins: A2 VCCO (power), A3 IO_VREF (io), A4 IO_L0P_YY (io), A5 IO_L1P_YY (io), A6 GCK3 (in), A7 GCK2 (in), A8 IO (io), A10 IO_VREF (io), A13 VCCO (power), B2 VCCO (power), B3 IO (io), B4 IO_L0N_YY (io), B5 IO_L1N_YY (io), B7 IO_LVDS_DLL_L2P (io), B8 IO_VREF (io), B10 IO_VREF (io), B12 VCCO (power), C1 IO_VREF (io), C2 IO (io), C4 IO_VREF (io), C6 IO_LVDS_DLL_L2N (io), C8 IO_L3N_YY (io), C9 IO_L4N_YY (io), C10 IO_WRITE_L5N_YY (io), C11 IO_DOUT_BUSY_L6P_YY (io), C12 IO_DIN_D0_L6N_YY (io), C13 IO_VREF (io), D1 IO_L29N (io), D2 IO_L29P (io), D3 IO (io), D4 IO_VREF (io), D6 IO_VREF (io), D7 VCCO (power), D8 IO_L3P_YY (io), D9 IO_L4P_YY (io), D10 IO_CS_L5P_YY (io), D11 IO_VREF (io), D12 IO (io), D13 IO_L7P (io), E1 IO_VREF_L27P (io), E2 IO_L28N_YY (io), E3 IO_L28P_YY (io), E10 IO_D1_L7N (io), E12 IO_D2_L8P_YY (io), E13 IO_L8N_YY (io), F2 IO_L26P (io), F3 IO (io), F4 IO_L27N (io), F10 IO_VREF_L9P (io), F11 IO_D3_L9N (io), F12 IO (io), F13 IO_L10P (io), G1 IO_L26N (io), G2 VCCO (power), G4 IO (io), G11 VCCO (power), G13 IO_L10N (io), H1 IO_L25P (io), H2 IO_VREF_L25N (io), H3 IO_L24P_YY (io), H4 IO_L24N_YY (io), H10 IO_L12P_YY (io), H11 IO_VREF_L11N (io), H12 IO_D4_L11P (io), H13 IO (io), J2 IO_L23P (io), J3 IO_L23N (io), J4 IO (io), J10 IO_L13N (io), J11 IO_D6_L13P (io), J13 IO_D5_L12N_YY (io), K1 IO_VREF (io), K2 IO_VREF (io), K3 IO_L22P_YY (io), K4 IO_VREF (io), K5 IO_L20P_YY (io), K6 IO_L19P_YY (io), K7 GCK0 (in), K8 IO_L17N_YY (io), K9 IO_L16N_YY (io), K10 IO_D7_L14P_YY (io), K11 IO_VREF (io), K12 IO_VREF (io), K13 IO (io), L1 IO_L22N_YY (io), L4 IO_VREF (io), L6 IO_VREF (io), L8 IO_VREF (io), L10 IO_VREF (io), L11 IO_L15P_YY (io), L13 IO_INIT_L14N_YY (io), M2 VCCO (power), M3 IO_L21N_YY (io), M4 IO (io), M6 IO_LVDS_DLL_L18N (io), M7 GCK1 (in), M8 IO (io), M10 IO (io), M11 IO_L15N_YY (io), M13 VCCO (power), N1 VCCO (power), N3 IO_L21P_YY (io), N4 IO_L20N_YY (io), N5 IO_L19N_YY (io), N7 VCCO (power), N8 IO_LVDS_DLL_L18P (io), N9 IO_L17P_YY (io), N10 IO_L16P_YY (io), N11 IO_VREF (io), N13 VCCO (power)
part B pins: A1 GND (power), A9 VCCINT (power), A11 TDI (in), A12 TDO (out), B1 TMS (in), B6 VCCINT (power), B9 GND (power), B11 GND (power), B13 CCLK (io), C3 TCK (in), C5 VCCINT (power), C7 GND (power), D5 GND (power), E4 GND (power), E11 GND (power), F1 GND (power), G3 VCCINT (power), G10 GND (power), G12 VCCINT (power), J1 GND (power), J12 GND (power), L2 M1 (in), L3 GND (power), L5 GND (power), L7 GND (power), L9 GND (power), L12 PROGRAM (in), M1 M0 (in), M5 VCCINT (power), M9 VCCINT (power), M12 DONE (io), N2 M2 (in), N6 VCCINT (power), N12 GND (power)

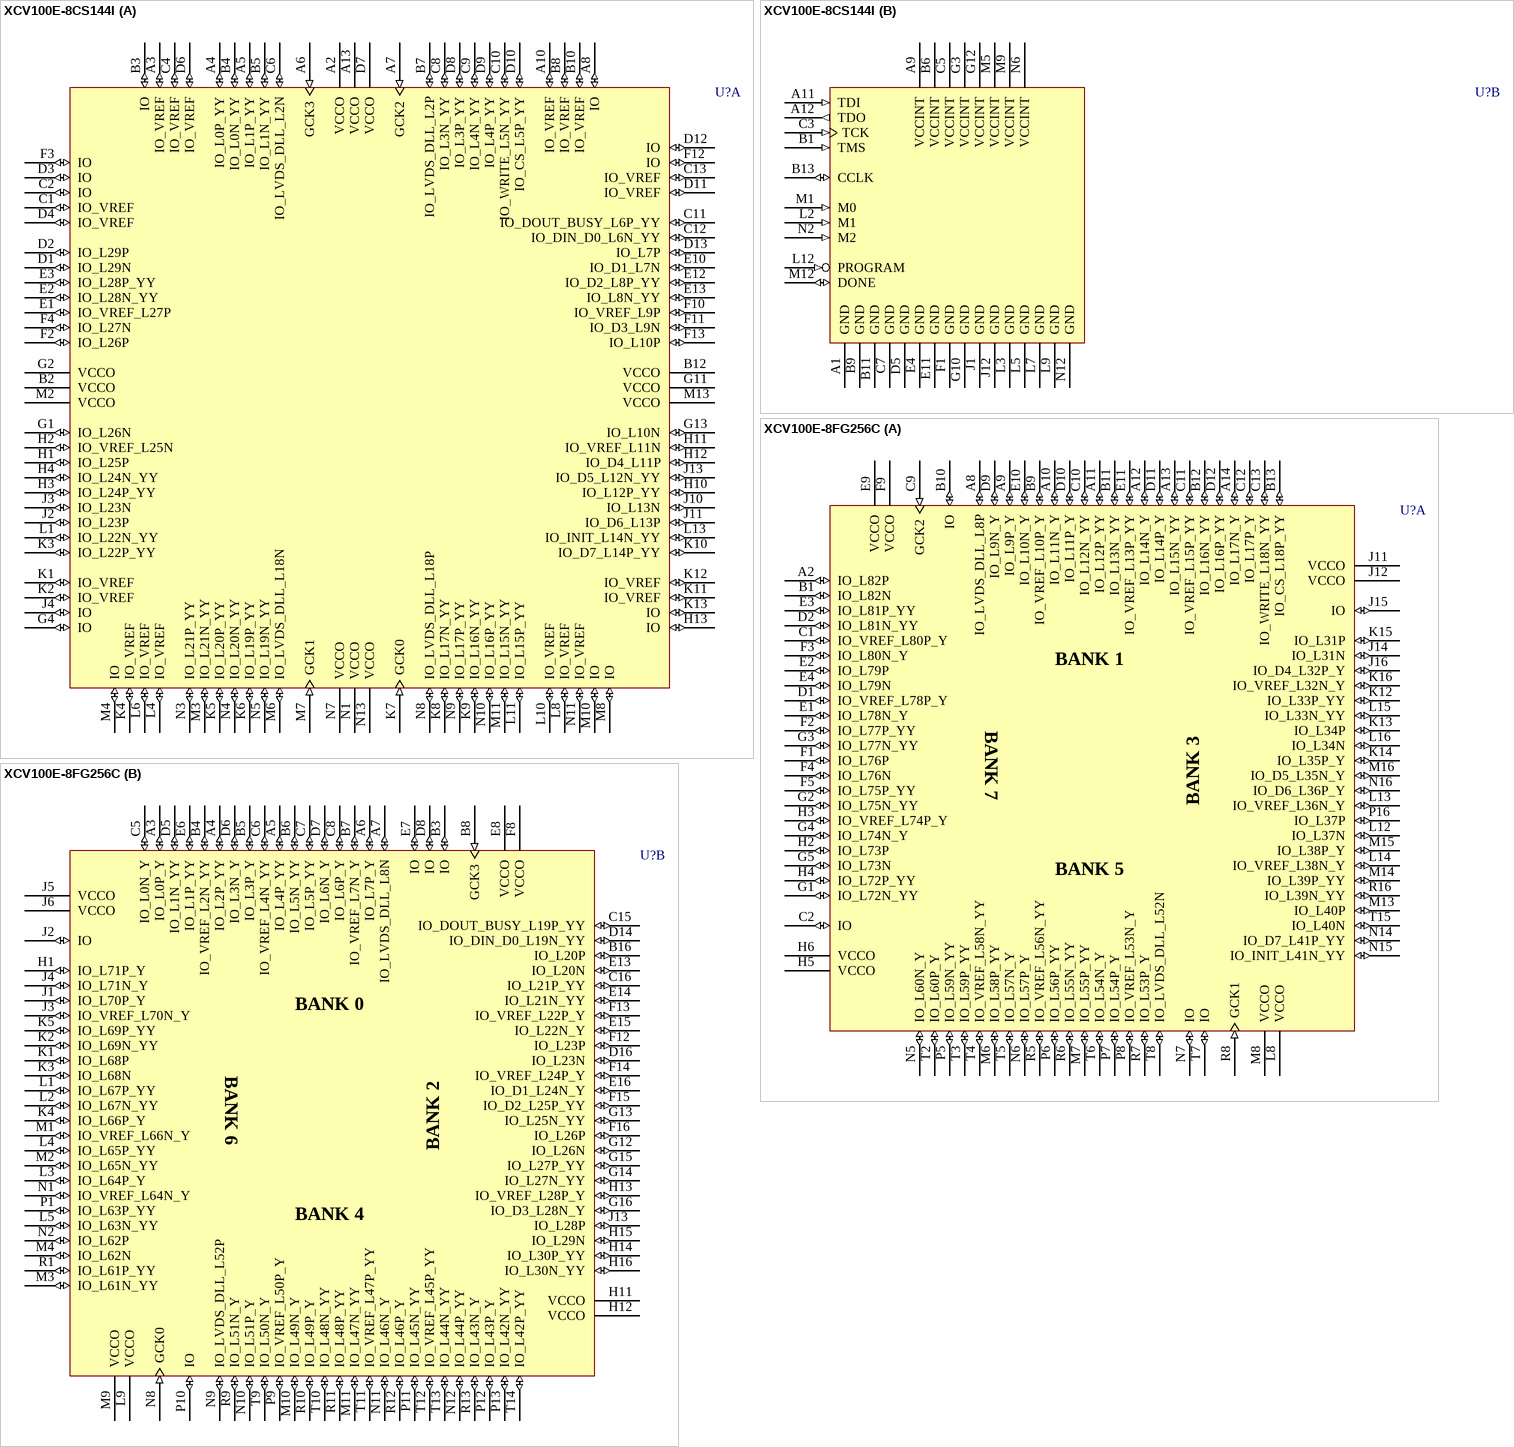
[diagram p29: symbols XCV100E-8CS144I to XCV100E-8FG256C]

## XCV100E-8CS144I
designator U?
Virtex-E 1.8V FPGA, 144-Ball CSBGA, Industrial Grade; PackageDocument: ver1.0, Jun-2000; Note: Solder pads are defined by the copper, i.e. non-soldermask defined (NSMD); Published: 19-Sep-2001; LatestRevisionDate: 17-Sep-2003; LatestRevisionNote: PCB Footprint dimensions updated; DatasheetDocument: Mar-2003; PackageReference: CS144; Publisher: Altium Limited
footprint CS144 (144-Ball Chip Scale Ball Grid Array (CS144))
3D model XCV100E-CS144 (144-Ball Chip Scale Ball Grid Array (CS144))
signal-integrity model XCV100E_CS144 (Virtex-E)
part A pins: A2 VCCO (power), A3 IO_VREF (io), A4 IO_L0P_YY (io), A5 IO_L1P_YY (io), A6 GCK3 (in), A7 GCK2 (in), A8 IO (io), A10 IO_VREF (io), A13 VCCO (power), B2 VCCO (power), B3 IO (io), B4 IO_L0N_YY (io), B5 IO_L1N_YY (io), B7 IO_LVDS_DLL_L2P (io), B8 IO_VREF (io), B10 IO_VREF (io), B12 VCCO (power), C1 IO_VREF (io), C2 IO (io), C4 IO_VREF (io), C6 IO_LVDS_DLL_L2N (io), C8 IO_L3N_YY (io), C9 IO_L4N_YY (io), C10 IO_WRITE_L5N_YY (io), C11 IO_DOUT_BUSY_L6P_YY (io), C12 IO_DIN_D0_L6N_YY (io), C13 IO_VREF (io), D1 IO_L29N (io), D2 IO_L29P (io), D3 IO (io), D4 IO_VREF (io), D6 IO_VREF (io), D7 VCCO (power), D8 IO_L3P_YY (io), D9 IO_L4P_YY (io), D10 IO_CS_L5P_YY (io), D11 IO_VREF (io), D12 IO (io), D13 IO_L7P (io), E1 IO_VREF_L27P (io), E2 IO_L28N_YY (io), E3 IO_L28P_YY (io), E10 IO_D1_L7N (io), E12 IO_D2_L8P_YY (io), E13 IO_L8N_YY (io), F2 IO_L26P (io), F3 IO (io), F4 IO_L27N (io), F10 IO_VREF_L9P (io), F11 IO_D3_L9N (io), F12 IO (io), F13 IO_L10P (io), G1 IO_L26N (io), G2 VCCO (power), G4 IO (io), G11 VCCO (power), G13 IO_L10N (io), H1 IO_L25P (io), H2 IO_VREF_L25N (io), H3 IO_L24P_YY (io), H4 IO_L24N_YY (io), H10 IO_L12P_YY (io), H11 IO_VREF_L11N (io), H12 IO_D4_L11P (io), H13 IO (io), J2 IO_L23P (io), J3 IO_L23N (io), J4 IO (io), J10 IO_L13N (io), J11 IO_D6_L13P (io), J13 IO_D5_L12N_YY (io), K1 IO_VREF (io), K2 IO_VREF (io), K3 IO_L22P_YY (io), K4 IO_VREF (io), K5 IO_L20P_YY (io), K6 IO_L19P_YY (io), K7 GCK0 (in), K8 IO_L17N_YY (io), K9 IO_L16N_YY (io), K10 IO_D7_L14P_YY (io), K11 IO_VREF (io), K12 IO_VREF (io), K13 IO (io), L1 IO_L22N_YY (io), L4 IO_VREF (io), L6 IO_VREF (io), L8 IO_VREF (io), L10 IO_VREF (io), L11 IO_L15P_YY (io), L13 IO_INIT_L14N_YY (io), M2 VCCO (power), M3 IO_L21N_YY (io), M4 IO (io), M6 IO_LVDS_DLL_L18N (io), M7 GCK1 (in), M8 IO (io), M10 IO (io), M11 IO_L15N_YY (io), M13 VCCO (power), N1 VCCO (power), N3 IO_L21P_YY (io), N4 IO_L20N_YY (io), N5 IO_L19N_YY (io), N7 VCCO (power), N8 IO_LVDS_DLL_L18P (io), N9 IO_L17P_YY (io), N10 IO_L16P_YY (io), N11 IO_VREF (io), N13 VCCO (power)
part B pins: A1 GND (power), A9 VCCINT (power), A11 TDI (in), A12 TDO (out), B1 TMS (in), B6 VCCINT (power), B9 GND (power), B11 GND (power), B13 CCLK (io), C3 TCK (in), C5 VCCINT (power), C7 GND (power), D5 GND (power), E4 GND (power), E11 GND (power), F1 GND (power), G3 VCCINT (power), G10 GND (power), G12 VCCINT (power), J1 GND (power), J12 GND (power), L2 M1 (in), L3 GND (power), L5 GND (power), L7 GND (power), L9 GND (power), L12 PROGRAM (in), M1 M0 (in), M5 VCCINT (power), M9 VCCINT (power), M12 DONE (io), N2 M2 (in), N6 VCCINT (power), N12 GND (power)

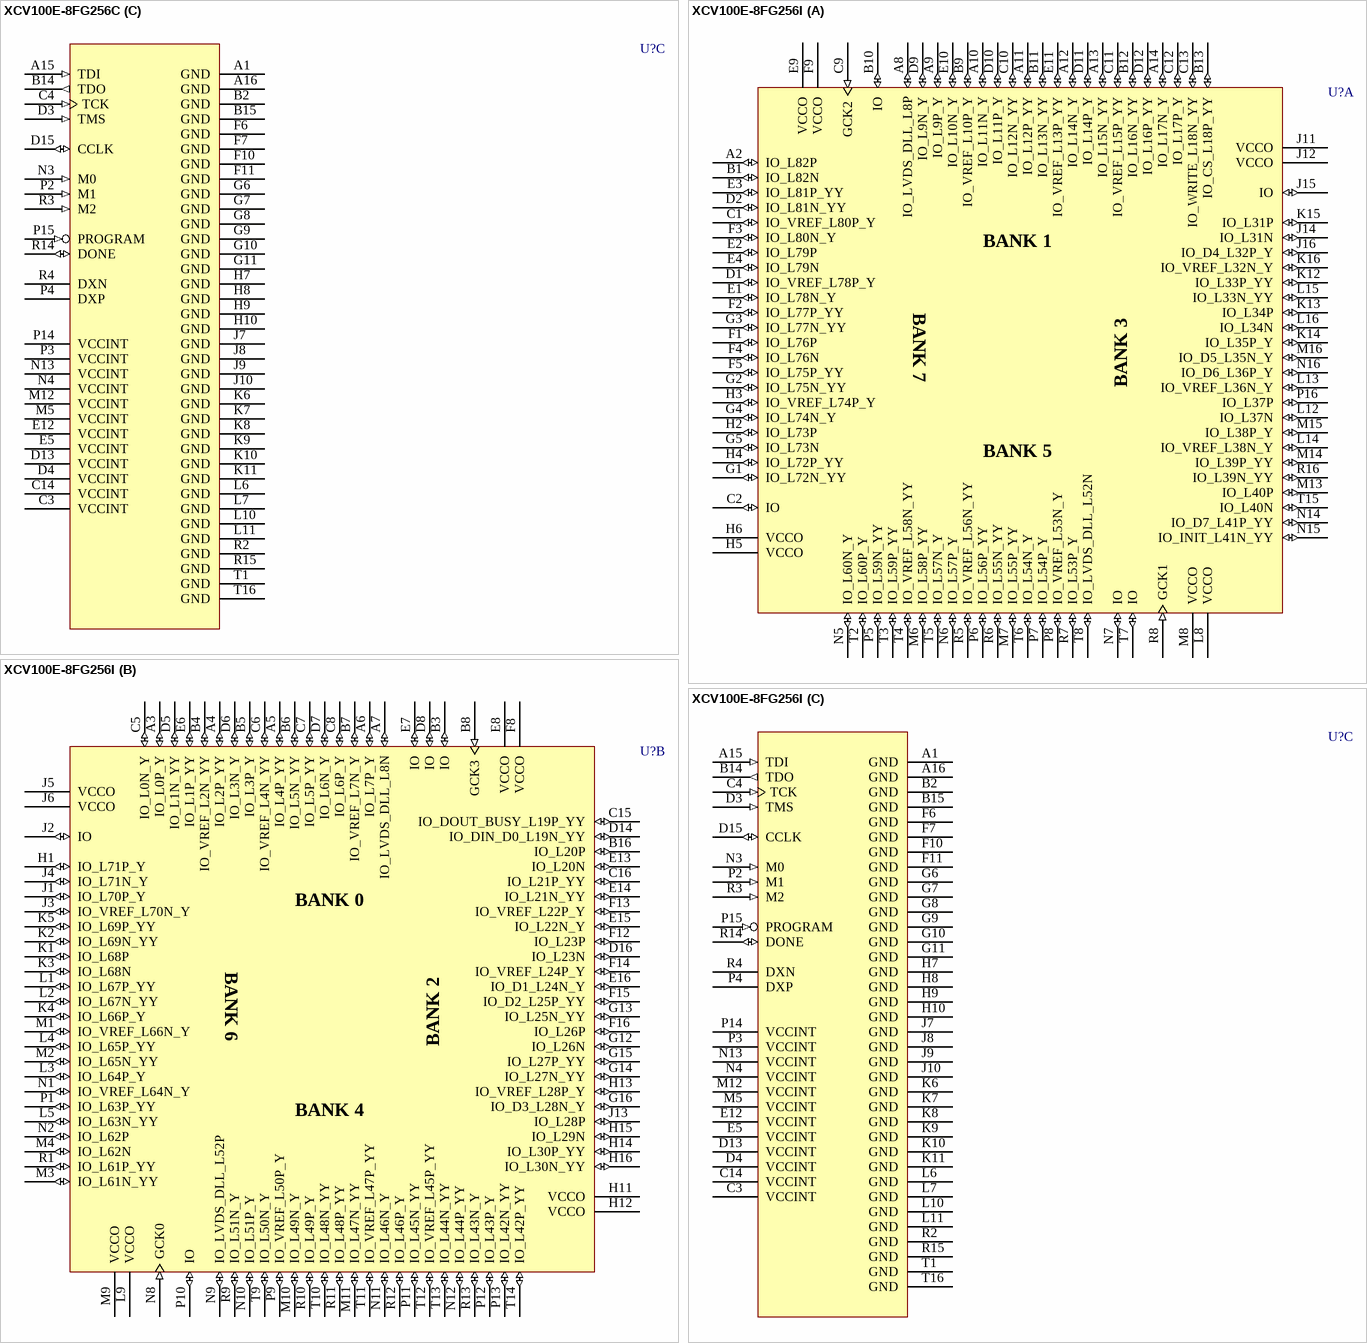
[diagram p30: symbols XCV100E-8FG256C to XCV100E-8FG256I]

## XCV100E-8FG256C
designator U?
Virtex-E 1.8V FPGA, 256-Ball FBGA, Commercial Grade; PackageDocument: ver1.1, Apr-2001; Note: Solder pads are defined by the copper, i.e. non-soldermask defined (NSMD); Published: 19-Sep-2001; LatestRevisionDate: 17-Jul-2002; LatestRevisionNote: Re-released for DXP Platform.; DatasheetDocument: Mar-2003; PackageReference: FG256; Publisher: Altium Limited; Code_JEDEC: MO-151-AAF-1; Code_IPC: PBGA 17X17 FE256
footprint FG256 (256-Ball Fine Pitch Ball Grid Array (FG256))
3D model XCV100E-FG256 (256-Ball Fine Pitch Ball Grid Array (FG256))
signal-integrity model XCV100E_FG256 (Virtex-E)
part A pins: A2 IO_L82P (io), A8 IO_LVDS_DLL_L8P (io), A9 IO_L9P_Y (io), A10 IO_L11N_Y (io), A11 IO_L12P_YY (io), A12 IO_L14N_Y (io), A13 IO_L15N_YY (io), A14 IO_L17N_Y (io), B1 IO_L82N (io), B9 IO_VREF_L10P_Y (io), B10 IO (io), B11 IO_L13N_YY (io), B12 IO_L16N_YY (io), B13 IO_CS_L18P_YY (io), C1 IO_VREF_L80P_Y (io), C2 IO (io), C9 GCK2 (in), C10 IO_L12N_YY (io), C11 IO_VREF_L15P_YY (io), C12 IO_L17P_Y (io), C13 IO_WRITE_L18N_YY (io), D1 IO_VREF_L78P_Y (io), D2 IO_L81N_YY (io), D9 IO_L9N_Y (io), D10 IO_L11P_Y (io), D11 IO_L14P_Y (io), D12 IO_L16P_YY (io), E1 IO_L78N_Y (io), E2 IO_L79P (io), E3 IO_L81P_YY (io), E4 IO_L79N (io), E9 VCCO (power), E10 IO_L10N_Y (io), E11 IO_VREF_L13P_YY (io), F1 IO_L76P (io), F2 IO_L77P_YY (io), F3 IO_L80N_Y (io), F4 IO_L76N (io), F5 IO_L75P_YY (io), F9 VCCO (power), G1 IO_L72N_YY (io), G2 IO_L75N_YY (io), G3 IO_L77N_YY (io), G4 IO_L74N_Y (io), G5 IO_L73N (io), H2 IO_L73P (io), H3 IO_VREF_L74P_Y (io), H4 IO_L72P_YY (io), H5 VCCO (power), H6 VCCO (power), J11 VCCO (power), J12 VCCO (power), J14 IO_L31N (io), J15 IO (io), J16 IO_D4_L32P_Y (io), K12 IO_L33P_YY (io), K13 IO_L34P (io), K14 IO_L35P_Y (io), K15 IO_L31P (io), K16 IO_VREF_L32N_Y (io), L8 VCCO (power), L12 IO_L37N (io), L13 IO_VREF_L36N_Y (io), L14 IO_VREF_L38N_Y (io), L15 IO_L33N_YY (io), L16 IO_L34N (io), M6 IO_L58P_YY (io), M7 IO_L55P_YY (io), M8 VCCO (power), M13 IO_L40P (io), M14 IO_L39P_YY (io), M15 IO_L38P_Y (io), M16 IO_D5_L35N_Y (io), N5 IO_L60N_Y (io), N6 IO_L57P_Y (io), N7 IO (io), N14 IO_D7_L41P_YY (io), N15 IO_INIT_L41N_YY (io), N16 IO_D6_L36P_Y (io), P5 IO_L59N_YY (io), P6 IO_L56P_YY (io), P7 IO_L54P_Y (io), P8 IO_VREF_L53N_Y (io), P16 IO_L37P (io), R5 IO_VREF_L56N_YY (io), R6 IO_L55N_YY (io), R7 IO_L53P_Y (io), R8 GCK1 (in), R16 IO_L39N_YY (io), T2 IO_L60P_Y (io), T3 IO_L59P_YY (io), T4 IO_VREF_L58N_YY (io), T5 IO_L57N_Y (io), T6 IO_L54N_Y (io), T7 IO (io), T8 IO_LVDS_DLL_L52N (io), T15 IO_L40N (io)
part B pins: A3 IO_L0P_Y (io), A4 IO_L2P_YY (io), A5 IO_L4P_YY (io), A6 IO_L7P_Y (io), A7 IO_LVDS_DLL_L8N (io), B3 IO (io), B4 IO_VREF_L2N_YY (io), B5 IO_L3P_Y (io), B6 IO_L5N_YY (io), B7 IO_VREF_L7N_Y (io), B8 GCK3 (in), B16 IO_L20P (io), C5 IO_L0N_Y (io), C6 IO_VREF_L4N_YY (io), C7 IO_L5P_YY (io), C8 IO_L6P_Y (io), C15 IO_DOUT_BUSY_L19P_YY (io), C16 IO_L21P_YY (io), D5 IO_L1N_YY (io), D6 IO_L3N_Y (io), D7 IO_L6N_Y (io), D8 IO (io), D14 IO_DIN_D0_L19N_YY (io), D16 IO_L23N (io), E6 IO_L1P_YY (io), E7 IO (io), E8 VCCO (power), E13 IO_L20N (io), E14 IO_L21N_YY (io), E15 IO_L22N_Y (io), E16 IO_D1_L24N_Y (io), F8 VCCO (power), F12 IO_L23P (io), F13 IO_VREF_L22P_Y (io), F14 IO_VREF_L24P_Y (io), F15 IO_D2_L25P_YY (io), F16 IO_L26P (io), G12 IO_L26N (io), G13 IO_L25N_YY (io), G14 IO_L27N_YY (io), G15 IO_L27P_YY (io), G16 IO_D3_L28N_Y (io), H1 IO_L71P_Y (io), H11 VCCO (power), H12 VCCO (power), H13 IO_VREF_L28P_Y (io), H14 IO_L30P_YY (io), H15 IO_L29N (io), H16 IO_L30N_YY (io), J1 IO_L70P_Y (io), J2 IO (io), J3 IO_VREF_L70N_Y (io), J4 IO_L71N_Y (io), J5 VCCO (power), J6 VCCO (power), J13 IO_L28P (io), K1 IO_L68P (io), K2 IO_L69N_YY (io), K3 IO_L68N (io), K4 IO_L66P_Y (io), K5 IO_L69P_YY (io), L1 IO_L67P_YY (io), L2 IO_L67N_YY (io), L3 IO_L64P_Y (io), L4 IO_L65P_YY (io), L5 IO_L63N_YY (io), L9 VCCO (power), M1 IO_VREF_L66N_Y (io), M2 IO_L65N_YY (io), M3 IO_L61N_YY (io), M4 IO_L62N (io), M9 VCCO (power), M10 IO_L49N_Y (io), M11 IO_L47N_YY (io), N1 IO_VREF_L64N_Y (io), N2 IO_L62P (io), N8 GCK0 (in), N9 IO_LVDS_DLL_L52P (io), N10 IO_L51P_Y (io), N11 IO_L46N_Y (io), N12 IO_L44P_YY (io), P1 IO_L63P_YY (io), P9 IO_VREF_L50P_Y (io), P10 IO (io), P11 IO_L45N_YY (io), P12 IO_L43P_Y (io), P13 IO_L42N_YY (io), R1 IO_L61P_YY (io), R9 IO_L51N_Y (io), R10 IO_L49P_Y (io), R11 IO_L48P_YY (io), R12 IO_L46P_Y (io), R13 IO_L43N_Y (io), T9 IO_L50N_Y (io), T10 IO_L48N_YY (io), T11 IO_VREF_L47P_YY (io), T12 IO_VREF_L45P_YY (io), T13 IO_L44N_YY (io), T14 IO_L42P_YY (io)
part C pins: A1 GND (power), A15 TDI (in), A16 GND (power), B2 GND (power), B14 TDO (out), B15 GND (power), C3 VCCINT (power), C4 TCK (in), C14 VCCINT (power), D3 TMS (in), D4 VCCINT (power), D13 VCCINT (power), D15 CCLK (io), E5 VCCINT (power), E12 VCCINT (power), F6 GND (power), F7 GND (power), F10 GND (power), F11 GND (power), G6 GND (power), G7 GND (power), G8 GND (power), G9 GND (power), G10 GND (power), G11 GND (power), H7 GND (power), H8 GND (power), H9 GND (power), H10 GND (power), J7 GND (power), J8 GND (power), J9 GND (power), J10 GND (power), K6 GND (power), K7 GND (power), K8 GND (power), K9 GND (power), K10 GND (power), K11 GND (power), L6 GND (power), L7 GND (power), L10 GND (power), L11 GND (power), M5 VCCINT (power), M12 VCCINT (power), N3 M0 (in), N4 VCCINT (power), N13 VCCINT (power), P2 M1 (in), P3 VCCINT (power), P4 DXP, P14 VCCINT (power), P15 PROGRAM (in), R2 GND (power), R3 M2 (in), R4 DXN, R14 DONE (io), R15 GND (power), T1 GND (power), T16 GND (power)
part A text: BANK 1; BANK 7; BANK 3; BANK 5
part B text: BANK 0; BANK 6; BANK 2; BANK 4

## XCV100E-8FG256I
designator U?
Virtex-E 1.8V FPGA, 256-Ball FBGA, Industrial Grade; PackageDocument: ver1.1, Apr-2001; Note: Solder pads are defined by the copper, i.e. non-soldermask defined (NSMD); Published: 19-Sep-2001; LatestRevisionDate: 17-Jul-2002; LatestRevisionNote: Re-released for DXP Platform.; DatasheetDocument: Mar-2003; PackageReference: FG256; Publisher: Altium Limited; Code_JEDEC: MO-151-AAF-1; Code_IPC: PBGA 17X17 FE256
footprint FG256 (256-Ball Fine Pitch Ball Grid Array (FG256))
3D model XCV100E-FG256 (256-Ball Fine Pitch Ball Grid Array (FG256))
signal-integrity model XCV100E_FG256 (Virtex-E)
part A pins: A2 IO_L82P (io), A8 IO_LVDS_DLL_L8P (io), A9 IO_L9P_Y (io), A10 IO_L11N_Y (io), A11 IO_L12P_YY (io), A12 IO_L14N_Y (io), A13 IO_L15N_YY (io), A14 IO_L17N_Y (io), B1 IO_L82N (io), B9 IO_VREF_L10P_Y (io), B10 IO (io), B11 IO_L13N_YY (io), B12 IO_L16N_YY (io), B13 IO_CS_L18P_YY (io), C1 IO_VREF_L80P_Y (io), C2 IO (io), C9 GCK2 (in), C10 IO_L12N_YY (io), C11 IO_VREF_L15P_YY (io), C12 IO_L17P_Y (io), C13 IO_WRITE_L18N_YY (io), D1 IO_VREF_L78P_Y (io), D2 IO_L81N_YY (io), D9 IO_L9N_Y (io), D10 IO_L11P_Y (io), D11 IO_L14P_Y (io), D12 IO_L16P_YY (io), E1 IO_L78N_Y (io), E2 IO_L79P (io), E3 IO_L81P_YY (io), E4 IO_L79N (io), E9 VCCO (power), E10 IO_L10N_Y (io), E11 IO_VREF_L13P_YY (io), F1 IO_L76P (io), F2 IO_L77P_YY (io), F3 IO_L80N_Y (io), F4 IO_L76N (io), F5 IO_L75P_YY (io), F9 VCCO (power), G1 IO_L72N_YY (io), G2 IO_L75N_YY (io), G3 IO_L77N_YY (io), G4 IO_L74N_Y (io), G5 IO_L73N (io), H2 IO_L73P (io), H3 IO_VREF_L74P_Y (io), H4 IO_L72P_YY (io), H5 VCCO (power), H6 VCCO (power), J11 VCCO (power), J12 VCCO (power), J14 IO_L31N (io), J15 IO (io), J16 IO_D4_L32P_Y (io), K12 IO_L33P_YY (io), K13 IO_L34P (io), K14 IO_L35P_Y (io), K15 IO_L31P (io), K16 IO_VREF_L32N_Y (io), L8 VCCO (power), L12 IO_L37N (io), L13 IO_VREF_L36N_Y (io), L14 IO_VREF_L38N_Y (io), L15 IO_L33N_YY (io), L16 IO_L34N (io), M6 IO_L58P_YY (io), M7 IO_L55P_YY (io), M8 VCCO (power), M13 IO_L40P (io), M14 IO_L39P_YY (io), M15 IO_L38P_Y (io), M16 IO_D5_L35N_Y (io), N5 IO_L60N_Y (io), N6 IO_L57P_Y (io), N7 IO (io), N14 IO_D7_L41P_YY (io), N15 IO_INIT_L41N_YY (io), N16 IO_D6_L36P_Y (io), P5 IO_L59N_YY (io), P6 IO_L56P_YY (io), P7 IO_L54P_Y (io), P8 IO_VREF_L53N_Y (io), P16 IO_L37P (io), R5 IO_VREF_L56N_YY (io), R6 IO_L55N_YY (io), R7 IO_L53P_Y (io), R8 GCK1 (in), R16 IO_L39N_YY (io), T2 IO_L60P_Y (io), T3 IO_L59P_YY (io), T4 IO_VREF_L58N_YY (io), T5 IO_L57N_Y (io), T6 IO_L54N_Y (io), T7 IO (io), T8 IO_LVDS_DLL_L52N (io), T15 IO_L40N (io)
part B pins: A3 IO_L0P_Y (io), A4 IO_L2P_YY (io), A5 IO_L4P_YY (io), A6 IO_L7P_Y (io), A7 IO_LVDS_DLL_L8N (io), B3 IO (io), B4 IO_VREF_L2N_YY (io), B5 IO_L3P_Y (io), B6 IO_L5N_YY (io), B7 IO_VREF_L7N_Y (io), B8 GCK3 (in), B16 IO_L20P (io), C5 IO_L0N_Y (io), C6 IO_VREF_L4N_YY (io), C7 IO_L5P_YY (io), C8 IO_L6P_Y (io), C15 IO_DOUT_BUSY_L19P_YY (io), C16 IO_L21P_YY (io), D5 IO_L1N_YY (io), D6 IO_L3N_Y (io), D7 IO_L6N_Y (io), D8 IO (io), D14 IO_DIN_D0_L19N_YY (io), D16 IO_L23N (io), E6 IO_L1P_YY (io), E7 IO (io), E8 VCCO (power), E13 IO_L20N (io), E14 IO_L21N_YY (io), E15 IO_L22N_Y (io), E16 IO_D1_L24N_Y (io), F8 VCCO (power), F12 IO_L23P (io), F13 IO_VREF_L22P_Y (io), F14 IO_VREF_L24P_Y (io), F15 IO_D2_L25P_YY (io), F16 IO_L26P (io), G12 IO_L26N (io), G13 IO_L25N_YY (io), G14 IO_L27N_YY (io), G15 IO_L27P_YY (io), G16 IO_D3_L28N_Y (io), H1 IO_L71P_Y (io), H11 VCCO (power), H12 VCCO (power), H13 IO_VREF_L28P_Y (io), H14 IO_L30P_YY (io), H15 IO_L29N (io), H16 IO_L30N_YY (io), J1 IO_L70P_Y (io), J2 IO (io), J3 IO_VREF_L70N_Y (io), J4 IO_L71N_Y (io), J5 VCCO (power), J6 VCCO (power), J13 IO_L28P (io), K1 IO_L68P (io), K2 IO_L69N_YY (io), K3 IO_L68N (io), K4 IO_L66P_Y (io), K5 IO_L69P_YY (io), L1 IO_L67P_YY (io), L2 IO_L67N_YY (io), L3 IO_L64P_Y (io), L4 IO_L65P_YY (io), L5 IO_L63N_YY (io), L9 VCCO (power), M1 IO_VREF_L66N_Y (io), M2 IO_L65N_YY (io), M3 IO_L61N_YY (io), M4 IO_L62N (io), M9 VCCO (power), M10 IO_L49N_Y (io), M11 IO_L47N_YY (io), N1 IO_VREF_L64N_Y (io), N2 IO_L62P (io), N8 GCK0 (in), N9 IO_LVDS_DLL_L52P (io), N10 IO_L51P_Y (io), N11 IO_L46N_Y (io), N12 IO_L44P_YY (io), P1 IO_L63P_YY (io), P9 IO_VREF_L50P_Y (io), P10 IO (io), P11 IO_L45N_YY (io), P12 IO_L43P_Y (io), P13 IO_L42N_YY (io), R1 IO_L61P_YY (io), R9 IO_L51N_Y (io), R10 IO_L49P_Y (io), R11 IO_L48P_YY (io), R12 IO_L46P_Y (io), R13 IO_L43N_Y (io), T9 IO_L50N_Y (io), T10 IO_L48N_YY (io), T11 IO_VREF_L47P_YY (io), T12 IO_VREF_L45P_YY (io), T13 IO_L44N_YY (io), T14 IO_L42P_YY (io)
part C pins: A1 GND (power), A15 TDI (in), A16 GND (power), B2 GND (power), B14 TDO (out), B15 GND (power), C3 VCCINT (power), C4 TCK (in), C14 VCCINT (power), D3 TMS (in), D4 VCCINT (power), D13 VCCINT (power), D15 CCLK (io), E5 VCCINT (power), E12 VCCINT (power), F6 GND (power), F7 GND (power), F10 GND (power), F11 GND (power), G6 GND (power), G7 GND (power), G8 GND (power), G9 GND (power), G10 GND (power), G11 GND (power), H7 GND (power), H8 GND (power), H9 GND (power), H10 GND (power), J7 GND (power), J8 GND (power), J9 GND (power), J10 GND (power), K6 GND (power), K7 GND (power), K8 GND (power), K9 GND (power), K10 GND (power), K11 GND (power), L6 GND (power), L7 GND (power), L10 GND (power), L11 GND (power), M5 VCCINT (power), M12 VCCINT (power), N3 M0 (in), N4 VCCINT (power), N13 VCCINT (power), P2 M1 (in), P3 VCCINT (power), P4 DXP, P14 VCCINT (power), P15 PROGRAM (in), R2 GND (power), R3 M2 (in), R4 DXN, R14 DONE (io), R15 GND (power), T1 GND (power), T16 GND (power)
part A text: BANK 1; BANK 7; BANK 3; BANK 5
part B text: BANK 0; BANK 6; BANK 2; BANK 4

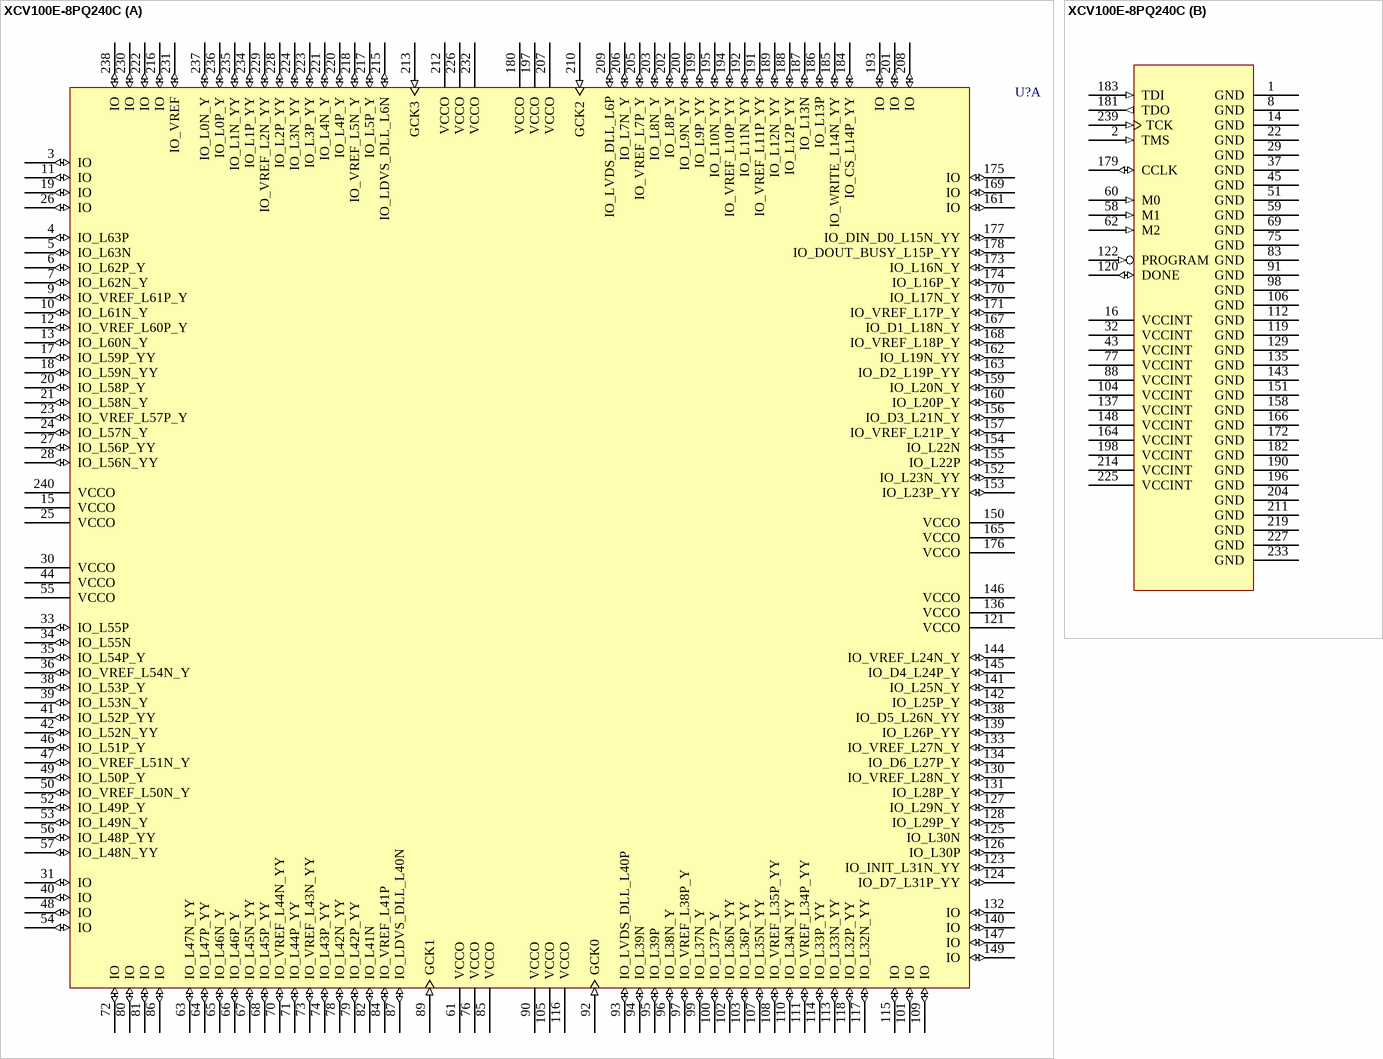
[diagram p31: symbol XCV100E-8PQ240C]

## XCV100E-8PQ240C
designator U?
Virtex-E 1.8V FPGA, 240-Pin PQFP, Commercial Grade; PackageDocument: ver1.1, Oct-2002; Published: 19-Sep-2001; LatestRevisionDate: 17-Jul-2002; LatestRevisionNote: Re-released for DXP Platform.; DatasheetDocument: Mar-2003; PackageReference: PQ240; Publisher: Altium Limited; Code_JEDEC: MO-143-GA
footprint PQ240 (240-Pin Plastic Quad Flat Pack (PQ240))
3D model XCV100E-PQ240 (240-Pin Plastic Quad Flat Pack (PQ240))
signal-integrity model XCV100E_PQ240 (Virtex-E)
part A pins: 3 IO (io), 4 IO_L63P (io), 5 IO_L63N (io), 6 IO_L62P_Y (io), 7 IO_L62N_Y (io), 9 IO_VREF_L61P_Y (io), 10 IO_L61N_Y (io), 11 IO (io), 12 IO_VREF_L60P_Y (io), 13 IO_L60N_Y (io), 15 VCCO (power), 17 IO_L59P_YY (io), 18 IO_L59N_YY (io), 19 IO (io), 20 IO_L58P_Y (io), 21 IO_L58N_Y (io), 23 IO_VREF_L57P_Y (io), 24 IO_L57N_Y (io), 25 VCCO (power), 26 IO (io), 27 IO_L56P_YY (io), 28 IO_L56N_YY (io), 30 VCCO (power), 31 IO (io), 33 IO_L55P (io), 34 IO_L55N (io), 35 IO_L54P_Y (io), 36 IO_VREF_L54N_Y (io), 38 IO_L53P_Y (io), 39 IO_L53N_Y (io), 40 IO (io), 41 IO_L52P_YY (io), 42 IO_L52N_YY (io), 44 VCCO (power), 46 IO_L51P_Y (io), 47 IO_VREF_L51N_Y (io), 48 IO (io), 49 IO_L50P_Y (io), 50 IO_VREF_L50N_Y (io), 52 IO_L49P_Y (io), 53 IO_L49N_Y (io), 54 IO (io), 55 VCCO (power), 56 IO_L48P_YY (io), 57 IO_L48N_YY (io), 61 VCCO (power), 63 IO_L47N_YY (io), 64 IO_L47P_YY (io), 65 IO_L46N_Y (io), 66 IO_L46P_Y (io), 67 IO_L45N_YY (io), 68 IO_L45P_YY (io), 70 IO_VREF_L44N_YY (io), 71 IO_L44P_YY (io), 72 IO (io), 73 IO_VREF_L43N_YY (io), 74 IO_L43P_YY (io), 76 VCCO (power), 78 IO_L42N_YY (io), 79 IO_L42P_YY (io), 80 IO (io), 81 IO (io), 82 IO_L41N (io), 84 IO_VREF_L41P (io), 85 VCCO (power), 86 IO (io), 87 IO_LDVS_DLL_L40N (io), 89 GCK1 (in), 90 VCCO (power), 92 GCK0 (in), 93 IO_LVDS_DLL_L40P (io), 94 IO_L39N (io), 95 IO_L39P (io), 96 IO_L38N_Y (io), 97 IO_VREF_L38P_Y (io), 99 IO_L37N_Y (io), 100 IO_L37P_Y (io), 101 IO (io), 102 IO_L36N_YY (io), 103 IO_L36P_YY (io), 105 VCCO (power), 107 IO_L35N_YY (io), 108 IO_VREF_L35P_YY (io), 109 IO (io), 110 IO_L34N_YY (io), 111 IO_VREF_L34P_YY (io), 113 IO_L33N_YY (io), 114 IO_L33P_YY (io), 115 IO (io), 116 VCCO (power), 117 IO_L32N_YY (io), 118 IO_L32P_YY (io), 121 VCCO (power), 123 IO_INIT_L31N_YY (io), 124 IO_D7_L31P_YY (io), 125 IO_L30N (io), 126 IO_L30P (io), 127 IO_L29N_Y (io), 128 IO_L29P_Y (io), 130 IO_VREF_L28N_Y (io), 131 IO_L28P_Y (io), 132 IO (io), 133 IO_VREF_L27N_Y (io), 134 IO_D6_L27P_Y (io), 136 VCCO (power), 138 IO_D5_L26N_YY (io), 139 IO_L26P_YY (io), 140 IO (io), 141 IO_L25N_Y (io), 142 IO_L25P_Y (io), 144 IO_VREF_L24N_Y (io), 145 IO_D4_L24P_Y (io), 146 VCCO (power), 147 IO (io), 149 IO (io), 150 VCCO (power), 152 IO_L23N_YY (io), 153 IO_L23P_YY (io), 154 IO_L22N (io), 155 IO_L22P (io), 156 IO_D3_L21N_Y (io), 157 IO_VREF_L21P_Y (io), 159 IO_L20N_Y (io), 160 IO_L20P_Y (io), 161 IO (io), 162 IO_L19N_YY (io), 163 IO_D2_L19P_YY (io), 165 VCCO (power), 167 IO_D1_L18N_Y (io), 168 IO_VREF_L18P_Y (io), 169 IO (io), 170 IO_L17N_Y (io), 171 IO_VREF_L17P_Y (io), 173 IO_L16N_Y (io), 174 IO_L16P_Y (io), 175 IO (io), 176 VCCO (power), 177 IO_DIN_D0_L15N_YY (io), 178 IO_DOUT_BUSY_L15P_YY (io), 180 VCCO (power), 184 IO_CS_L14P_YY (io), 185 IO_WRITE_L14N_YY (io), 186 IO_L13P (io), 187 IO_L13N (io), 188 IO_L12P_YY (io), 189 IO_L12N_YY (io), 191 IO_VREF_L11P_YY (io), 192 IO_L11N_YY (io), 193 IO (io), 194 IO_VREF_L10P_YY (io), 195 IO_L10N_YY (io), 197 VCCO (power), 199 IO_L9P_YY (io), 200 IO_L9N_YY (io), 201 IO (io), 202 IO_L8P_Y (io), 203 IO_L8N_Y (io), 205 IO_VREF_L7P_Y (io), 206 IO_L7N_Y (io), 207 VCCO (power), 208 IO (io), 209 IO_LVDS_DLL_L6P (io), 210 GCK2 (in), 212 VCCO (power), 213 GCK3 (in), 215 IO_LDVS_DLL_L6N (io), 216 IO (io), 217 IO_L5P_Y (io), 218 IO_VREF_L5N_Y (io), 220 IO_L4P_Y (io), 221 IO_L4N_Y (io), 222 IO (io), 223 IO_L3P_YY (io), 224 IO_L3N_YY (io), 226 VCCO (power), 228 IO_L2P_YY (io), 229 IO_VREF_L2N_YY (io), 230 IO (io), 231 IO_VREF (io), 232 VCCO (power), 234 IO_L1P_YY (io), 235 IO_L1N_YY (io), 236 IO_L0P_Y (io), 237 IO_L0N_Y (io), 238 IO (io), 240 VCCO (power)
part B pins: 1 GND (power), 2 TMS (in), 8 GND (power), 14 GND (power), 16 VCCINT (power), 22 GND (power), 29 GND (power), 32 VCCINT (power), 37 GND (power), 43 VCCINT (power), 45 GND (power), 51 GND (power), 58 M1 (in), 59 GND (power), 60 M0 (in), 62 M2 (in), 69 GND (power), 75 GND (power), 77 VCCINT (power), 83 GND (power), 88 VCCINT (power), 91 GND (power), 98 GND (power), 104 VCCINT (power), 106 GND (power), 112 GND (power), 119 GND (power), 120 DONE (io), 122 PROGRAM (in), 129 GND (power), 135 GND (power), 137 VCCINT (power), 143 GND (power), 148 VCCINT (power), 151 GND (power), 158 GND (power), 164 VCCINT (power), 166 GND (power), 172 GND (power), 179 CCLK (io), 181 TDO (out), 182 GND (power), 183 TDI (in), 190 GND (power), 196 GND (power), 198 VCCINT (power), 204 GND (power), 211 GND (power), 214 VCCINT (power), 219 GND (power), 225 VCCINT (power), 227 GND (power), 233 GND (power), 239 TCK (in)

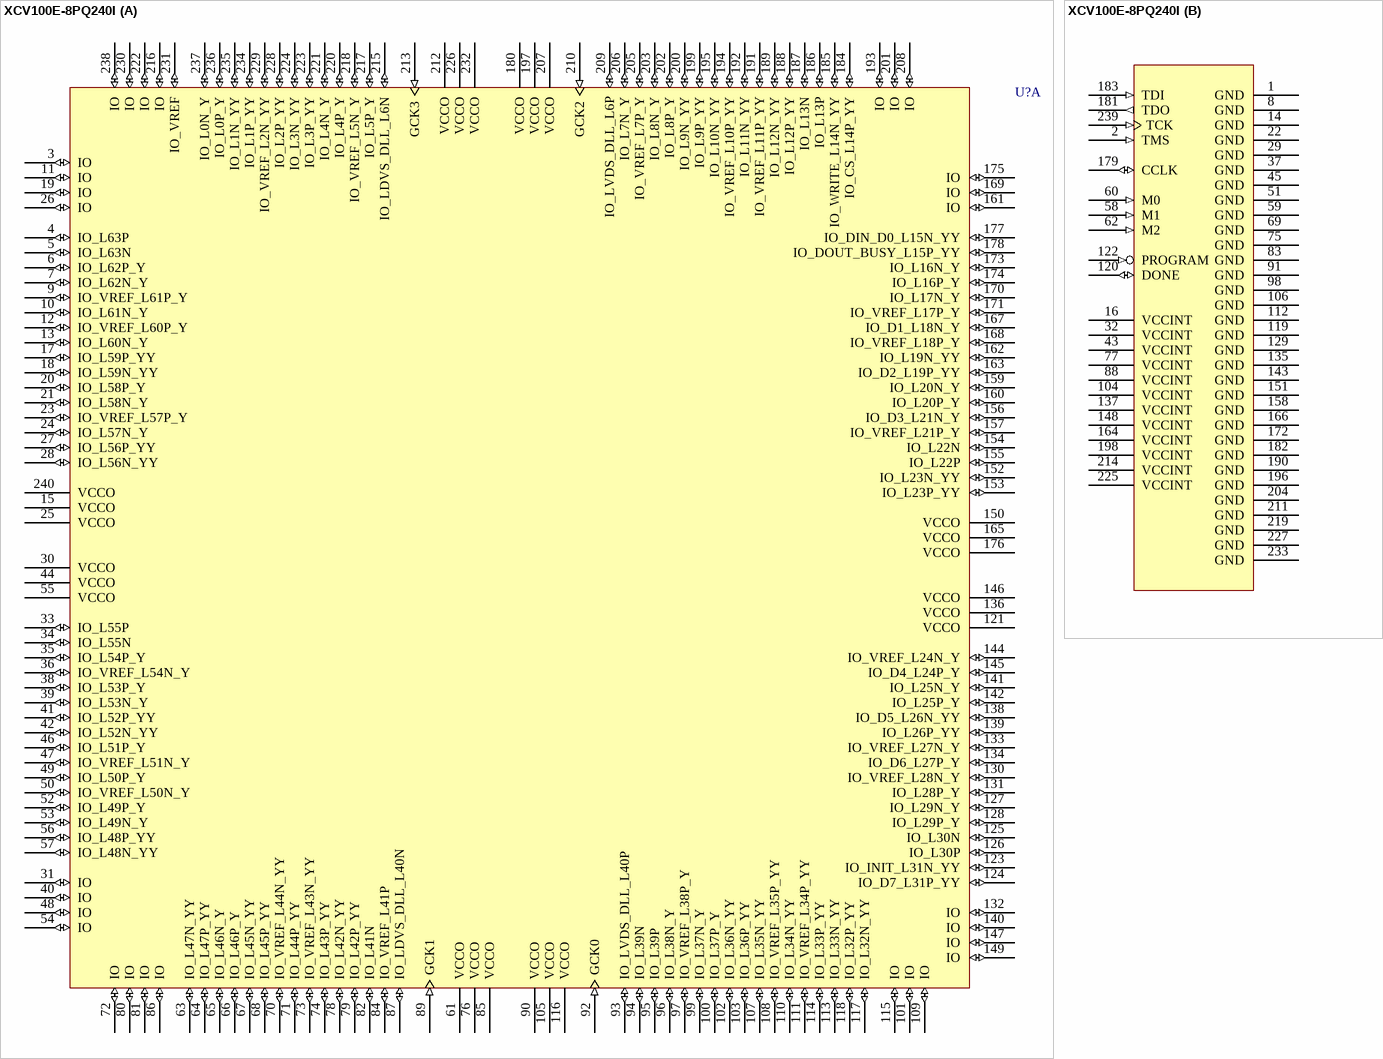
[diagram p32: symbol XCV100E-8PQ240I]